# Altium schematic symbol library ModSen.SchLib: 106 symbols (part 1 of 2)
Pins are listed as number, name and electrical type; pins without a type are passive.

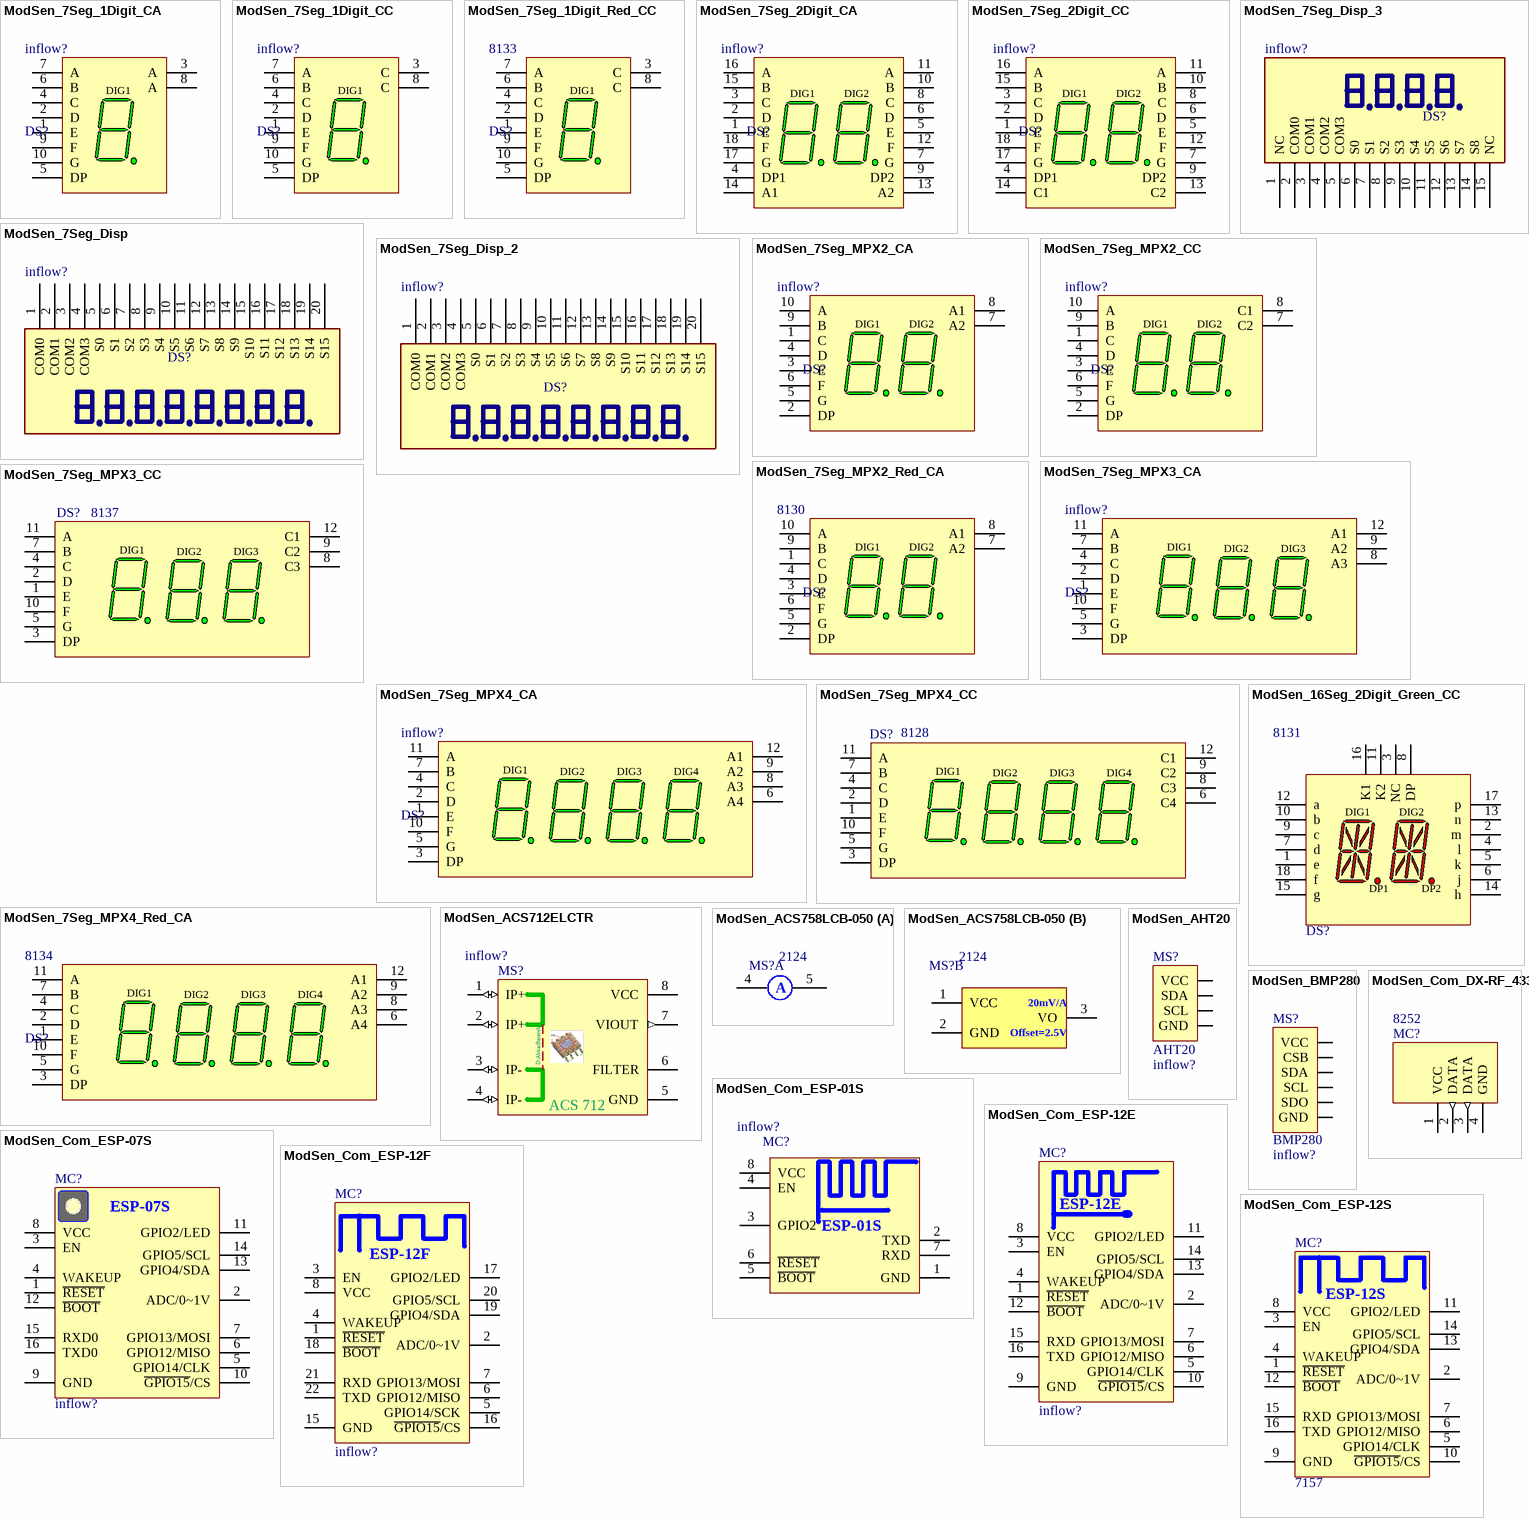
[diagram p0: symbols ModSen_7Seg_1Digit_CA to ModSen_Com_ESP-12S]

## ModSen_7Seg_1Digit_CA
designator DS?, comment Inflow: inflow?  (hidden comment: 1Digit, Color)
7Segment-1Digit-CA; Rating: Rating?; Type: Type?; Validation: NT; Value: 1Digit, Color; Package: Package?
footprint 7Seg-1-12.7x19.1mm (7Seg Display; 10 Leads; Body 12/7x19/1mm)
footprint 7seg-1-24x34mm (7Seg Display; 10 Leads; Body 24x34mm)
footprint 7seg-1-48x70mm (7Seg Display; 10 Leads; Body 48x70mm)
pins: 1 E, 2 D, 3 A, 4 C, 5 DP, 6 B, 7 A, 8 A, 9 F, 10 G
text: DIG1

## ModSen_7Seg_1Digit_CC
designator DS?, comment Inflow: inflow?  (hidden comment: 1Digit, Color)
7Segment-1Digit-CC; Rating: Rating?; Type: Type?; Validation: NT; Value: 1Digit, Color; Package: Package?
footprint 7Seg-1-12.7x19.1mm (7Seg Display; 10 Leads; Body 12/7x19/1mm)
footprint 7seg-1-24x34mm (7Seg Display; 10 Leads; Body 24x34mm)
footprint 7seg-1-48x70mm (7Seg Display; 10 Leads; Body 48x70mm)
pins: 1 E, 2 D, 3 C, 4 C, 5 DP, 6 B, 7 A, 8 C, 9 F, 10 G
text: DIG1

## ModSen_7Seg_1Digit_Red_CC
designator DS?, comment Inflow: 8133  (hidden comment: 1Digit, Red)
7Segment-1Digit-CC; Rating: Rating?; Type: Type?; Validation: NT; Value: 1Digit, Red; Package: Package?
footprint 7Seg-1-12.7x19.1mm (7Seg Display; 10 Leads; Body 12/7x19/1mm)
footprint 7seg-1-24x34mm (7Seg Display; 10 Leads; Body 24x34mm)
footprint 7seg-1-48x70mm (7Seg Display; 10 Leads; Body 48x70mm)
pins: 1 E, 2 D, 3 C, 4 C, 5 DP, 6 B, 7 A, 8 C, 9 F, 10 G
text: DIG1

## ModSen_7Seg_2Digit_CA
designator DS?, comment Inflow: inflow?  (hidden comment: 2Digit, Color)
7Segment-2Digit-CA; Rating: Rating?; Type: Type?; Validation: NT; Value: 2Digit, Color; Package: Package?
footprint 7Seg-2-25x19.1mm (7Seg Display, 18-Leads, Body 25x19/1mm)
pins: 1 E "Digit 1 e Cathode", 2 D "Digit 1 d Cathode", 3 C "Digit 1 c Cathode", 4 DP1 "Digit 1 DP Cathode", 5 E "Digit 2 e Cathode", 6 D "Digit 2 d Cathode", 7 G "Digit 2 g Cathode", 8 C "Digit 2 c Cathode", 9 DP2 "Digit 2 DP Cathode", 10 B "Digit 2 b Cathode", 11 A "Digit 2 a Cathode", 12 F "Digit 2 f Cathode", 13 A2 "Digit 2  Common Anode", 14 A1 "Digit 1 Common Anode", 15 B "Digit 1 b Cathode", 16 A "Digit 1 a Cathode", 17 G "Digit 1 g Cathode", 18 F "Digit 1 f Cathode"
text: DIG1; DIG2

## ModSen_7Seg_2Digit_CC
designator DS?, comment Inflow: inflow?  (hidden comment: 2Digit, Color)
7Segment-2Digit-CC; Rating: Rating?; Type: Type?; Validation: NT; Value: 2Digit, Color; Package: Package?
footprint 7Seg-2-25x19.1mm (7Seg Display, 18-Leads, Body 25x19/1mm)
pins: 1 E "Digit 1 e Cathode", 2 D "Digit 1 d Cathode", 3 C "Digit 1 c Cathode", 4 DP1 "Digit 1 DP Cathode", 5 E "Digit 2 e Cathode", 6 D "Digit 2 d Cathode", 7 G "Digit 2 g Cathode", 8 C "Digit 2 c Cathode", 9 DP2 "Digit 2 DP Cathode", 10 B "Digit 2 b Cathode", 11 A "Digit 2 a Cathode", 12 F "Digit 2 f Cathode", 13 C2 "Digit 2  Common Anode", 14 C1 "Digit 1 Common Anode", 15 B "Digit 1 b Cathode", 16 A "Digit 1 a Cathode", 17 G "Digit 1 g Cathode", 18 F "Digit 1 f Cathode"
text: DIG1; DIG2

## ModSen_7Seg_Disp
designator DS?, comment Inflow: inflow?  (hidden comment: BTL004)
BTL004 7segment multiplex display; Rating: Rating?; Type: Type?; Validation: NT; Value: BTL004; Package: Package?
footprint BTL004
pins: 1 COM0, 2 COM1, 3 COM2, 4 COM3, 5 S0, 6 S1, 7 S2, 8 S3, 9 S4, 10 S5, 11 S6, 12 S7, 13 S8, 14 S9, 15 S10, 16 S11, 17 S12, 18 S13, 19 S14, 20 S15

## ModSen_7Seg_Disp_2
designator DS?, comment Inflow: inflow?  (hidden comment: BTL008)
BTL008 7segment multiplex display; Rating: Rating?; Type: Type?; Validation: NT; Value: BTL008; Package: Package?
footprint BTL008
pins: 1 COM0, 2 COM1, 3 COM2, 4 COM3, 5 S0, 6 S1, 7 S2, 8 S3, 9 S4, 10 S5, 11 S6, 12 S7, 13 S8, 14 S9, 15 S10, 16 S11, 17 S12, 18 S13, 19 S14, 20 S15

## ModSen_7Seg_Disp_3
designator DS?, comment Inflow: inflow?  (hidden comment: BTL010)
BTL010 7segment multiplex display; Rating: Rating?; Type: Type?; Validation: NT; Value: BTL010; Package: Package?
footprint BTL010
pins: 1 NC, 2 COM0, 3 COM1, 4 COM2, 5 COM3, 6 S0, 7 S1, 8 S2, 9 S3, 10 S4, 11 S5, 12 S6, 13 S7, 14 S8, 15 NC

## ModSen_7Seg_MPX2_CA
designator DS?, comment Inflow: inflow?  (hidden comment: 2Digit, Color)
7Segment-MPX2-CA; Rating: Rating?; Type: Type?; Validation: NT; Value: 2Digit, Color; Package: Package?
footprint 7Seg-MPX2-25x19.1mm (7Seg Display, 10-Leads, Body 25x19/1mm)
pins: 1 C "Digits (1&2) Cathode", 2 DP "Digits (1&2) Cathode", 3 E "Digits (1&2) Cathode", 4 D "Digits (1&2) Cathode", 5 G "Digits (1&2) Cathode", 6 F "Digits (1&2) Cathode", 7 A2 "Common Anode", 8 A1 "Common Anode", 9 B "Digits (1&2) Cathode", 10 A "Digits (1&2) Cathode"
text: DIG1; DIG2

## ModSen_7Seg_MPX2_CC
designator DS?, comment Inflow: inflow?  (hidden comment: 2Digit, Color)
7Segment-MPX2-CC; Rating: Rating?; Type: Type?; Validation: NT; Value: 2Digit, Color; Package: Package?
footprint 7Seg-MPX2-25x19.1mm (7Seg Display, 10-Leads, Body 25x19/1mm)
pins: 1 C "Digits (1&2) Cathode", 2 DP "Digits (1&2) Cathode", 3 E "Digits (1&2) Cathode", 4 D "Digits (1&2) Cathode", 5 G "Digits (1&2) Cathode", 6 F "Digits (1&2) Cathode", 7 C2 "Common Anode", 8 C1 "Common Anode", 9 B "Digits (1&2) Cathode", 10 A "Digits (1&2) Cathode"
text: DIG1; DIG2

## ModSen_7Seg_MPX2_Red_CA
designator DS?, comment Inflow: 8130  (hidden comment: 2Digit, Red)
7Segment-MPX2-CA; Rating: Rating?; Type: Type?; Validation: NT; Value: 2Digit, Red; Package: Package?
footprint 7Seg-MPX2-25x19.1mm (7Seg Display, 10-Leads, Body 25x19/1mm)
pins: 1 C "Digits (1&2) Cathode", 2 DP "Digits (1&2) Cathode", 3 E "Digits (1&2) Cathode", 4 D "Digits (1&2) Cathode", 5 G "Digits (1&2) Cathode", 6 F "Digits (1&2) Cathode", 7 A2 "Common Anode", 8 A1 "Common Anode", 9 B "Digits (1&2) Cathode", 10 A "Digits (1&2) Cathode"
text: DIG1; DIG2

## ModSen_7Seg_MPX3_CA
designator DS?, comment Inflow: inflow?  (hidden comment: 3Digit, Color)
7Segment-MPX3-CA; Rating: Rating?; Type: Type?; Validation: NT; Value: 3Digit, Color; Package: Package?
footprint 7Seg-MPX3-37.6x19.1mm (Display, 12-Leads, Body 37/6x19/1mm)
pins: 1 E, 2 D, 3 DP, 4 C, 5 G, 6 NC hidden, 7 B, 8 A3, 9 A2, 10 F, 11 A, 12 A1
text: DIG1; DIG2; DIG3

## ModSen_7Seg_MPX3_CC
designator DS?, comment Inflow: 8137  (hidden comment: 3Digit Green)
7Segment-MPX3-CC; Rating: Rating?; Type: Type?; Validation: NT; Value: 3Digit Green; Package: Package?
footprint 7Seg-MPX3-37.6x19.1mm (Display, 12-Leads, Body 37/6x19/1mm)
pins: 1 E, 2 D, 3 DP, 4 C, 5 G, 6 NC hidden, 7 B, 8 C3, 9 C2, 10 F, 11 A, 12 C1
text: DIG1; DIG2; DIG3

## ModSen_7Seg_MPX4_CA
designator DS?, comment Inflow: inflow?  (hidden comment: 4Digit, Color)
7Segment-MPX4-CA; Rating: Rating?; Type: Type?; Validation: Valid; Value: 4Digit, Color; Package: Package?
footprint 7Seg-MPX4-30.2x14.1mm (Display, 12-Leads, Body 30/2x14/1mm)
footprint 7Seg-MPX4-50.5x19.1mm (Display, 12-Leads, Body 50.5x19/1mm)
pins: 1 E, 2 D, 3 DP, 4 C, 5 G, 6 A4, 7 B, 8 A3, 9 A2, 10 F, 11 A, 12 A1
text: DIG1; DIG2; DIG3; DIG4

## ModSen_7Seg_MPX4_CC
designator DS?, comment Inflow: 8128  (hidden comment: 4Digit, Red)
7Segment-MPX4-CC; Rating: Rating?; Type: Type?; Validation: Valid; Value: 4Digit, Red; Package: Package?
footprint 7Seg-MPX4-30.2x14.1mm (Display, 12-Leads, Body 30/2x14/1mm)
footprint 7Seg-MPX4-50.5x19.1mm (Display, 12-Leads, Body 50.5x19/1mm)
pins: 1 E, 2 D, 3 DP, 4 C, 5 G, 6 C4, 7 B, 8 C3, 9 C2, 10 F, 11 A, 12 C1
text: DIG1; DIG2; DIG3; DIG4

## ModSen_7Seg_MPX4_Red_CA
designator DS?, comment Inflow: 8134  (hidden comment: 4Digit, Red)
7Segment-MPX4-CA; Rating: Rating?; Type: Type?; Validation: NT; Value: 4Digit, Red; Package: Package?
footprint 7Seg-MPX4-30.2x14.1mm (Display, 12-Leads, Body 30/2x14/1mm)
footprint 7Seg-MPX4-50.5x19.1mm (Display, 12-Leads, Body 50.5x19/1mm)
pins: 1 E, 2 D, 3 DP, 4 C, 5 G, 6 A4, 7 B, 8 A3, 9 A2, 10 F, 11 A, 12 A1
text: DIG1; DIG2; DIG3; DIG4

## ModSen_16Seg_2Digit_Green_CC
designator DS?, comment Inflow: 8131  (hidden comment: 2digit, Green)
13.7 mm Gray Surface As AlInGaP Red Alphanumeric Display: 2-Character, CC; Rating: Rating?; Type: Type?; Validation: NT; Value: 2digit, Green; Package: Package?
footprint HDSP-A2 (LED, Alphanumeric Display, 13.8 mm, Dual Character; 18 Leads; Row Space 15.24 mm; Pitch 2.54 mm)
pins: 1 e "Digits (1&2) e Anode", 2 m "Digits (1&2) m Anode", 3 NC "No Connect", 4 l "Digits (1&2) l Anode", 5 k "Digits (1&2) k Anode", 6 j "Digits (1&2) j Anode", 7 d "Digits (1&2) d Anode", 8 DP "Digit 1&2 DP Anode", 9 c "Digits (1&2) c Anode", 10 b "Digits (1&2) b Anode", 11 K2 "Digit 2 Common Cathode", 12 a "Digits (1&2) a Anode", 13 n "Digits (1&2) n Anode", 14 h "Digits (1&2) h Anode", 15 g "Digits (1&2) g Anode", 16 K1 "Digit 1 Common Cathode", 17 p "Digits (1&2) p Anode", 18 f "Digits (1&2) f Anode"
text: DIG1; DIG2; DP1; DP2

## ModSen_ACS712ELCTR
designator MS?, comment Inflow: inflow?  (hidden comment: ACS712-5A)
Fully Integrated, Hall Effect-Based Linear Current Sensor IC  with 2.1 kVRMS Isolation and a Low-Resistance Current Conductor; Rating: Rating?; Validation: NT; Value: ACS712-5A; Package: Package?; Type: Type?
footprint 8S2_N (SOP, 8-Leads, Body 5.3x5.3mm, Pitch 1.27mm, IPC Medium Density)
footprint 8S2_L (SOP, 8-Leads, Body 5.3x5.3mm, Pitch 1.27mm, IPC High Density)
footprint 8S2_M (SOP, 8-Leads, Body 5.3x5.3mm, Pitch 1.27mm, IPC Low Density)
pins: 1 IP+ (io), 2 IP+ (io), 3 IP- (io), 4 IP- (io), 5 GND (power), 6 FILTER, 7 VIOUT (out), 8 VCC (power)
text: D:AbbasBasereh; ACS 712

## ModSen_ACS758LCB-050
designator MS?, comment Inflow: 2124  (hidden comment: 50'A)
Current Sensor; Rating: Rating?; Validation: NT; Value: 50'A; Package: Package?; Type: Type?
footprint ACS752SCA-100
part A pins: 4 Ip+, 5 Ip-
part B pins: 1 VCC (power), 2 GND (power), 3 VO
part A text: A
part B text: 20mV/A; Offset=2.5V

## ModSen_AHT20
designator MS?, comment Inflow: inflow?  (hidden comment: AHT20)
Air Temperature and Humidity Sensor; Rating: Rating?; Validation: Valid; Package: Dip; Type: Air T&H; Value: AHT20
footprint AHT20
pins: 1 SDA, 2 SCL, 3 GND, 4 VCC

## ModSen_BMP280
designator MS?, comment Inflow: inflow?  (hidden comment: BMP280)
Air Pressure Sensor; Rating: Rating?; Validation: Valid; Package: Dip; Type: Air Quality; Value: BMP280
footprint BMP280
pins: 1 VCC, 2 GND, 3 SCL, 4 SDA, 5 CSB "if Connector To Vddio => I2C Mode, If Pull Down => SPI Mode", 6 SDO "I2C Add"

## ModSen_Com_DX-RF_433
designator MC?, comment Inflow: 8252  (hidden comment: RXB22)
ASK DX-RF 433; Rating: Rating?; Validation: Vallid; Value: RXB22; Package: Package?; Type: Type?
footprint RF_DX-RF
pins: 1 VCC (power), 2 DATA (out), 3 DATA (out), 4 GND (power)

## ModSen_Com_ESP-01S
designator MC?, comment Inflow: inflow?  (hidden comment: ESP8266-01S)
ESP8266 WIFI Module Model ESP-01S; Rating: Rating?; Validation: NT; Value: ESP8266-01S; Package: Package?; Type: Type?
footprint ESP8266_01S (ArdESP8266_01S, 8-Leads, Pitch 2.54mm)
pins: 1 GND (power), 2 TXD, 3 GPIO2, 4 EN, 5 ~{BOOT}, 6 ~{RESET}, 7 RXD, 8 VCC (power)
text: ESP-01S

## ModSen_Com_ESP-07S
designator MC?, comment Inflow: inflow?  (hidden comment: ESP8266-07S)
ESP8266 WIFI Module Model ESP-07S; Rating: 07S; Validation: NT; Type: ESP8266; Package: SMD; Value: ESP8266-07S
footprint ESP8266_07S
pins: 1 ~{RESET}, 2 ADC/0~1V, 3 EN, 4 WAKEUP, 5 GPIO14/CLK, 6 GPIO12/MISO, 7 GPIO13/MOSI, 8 VCC (power), 9 GND (power), 10 ~{GPIO15}/CS, 11 GPIO2/LED, 12 ~{BOOT}, 13 GPIO4/SDA, 14 GPIO5/SCL, 15 RXD0, 16 TXD0
text: ESP-07S

## ModSen_Com_ESP-12E
designator MC?, comment Inflow: inflow?  (hidden comment: ESP8266-12E)
ESP8266 WIFI Module Model ESP-12E; Rating: 12E; Validation: NT; Type: ESP8266; Package: SMD; Value: ESP8266-12E
footprint ESP8266_12E
pins: 1 ~{RESET}, 2 ADC/0~1V, 3 EN, 4 WAKEUP, 5 GPIO14/CLK, 6 GPIO12/MISO, 7 GPIO13/MOSI, 8 VCC (power), 9 GND (power), 10 ~{GPIO15}/CS, 11 GPIO2/LED, 12 ~{BOOT}, 13 GPIO4/SDA, 14 GPIO5/SCL, 15 RXD, 16 TXD
text: ESP-12E

## ModSen_Com_ESP-12F
designator MC?, comment Inflow: inflow?  (hidden comment: ESP8266-12F)
ESP8266 WIFI Module Model ESP-12F; Rating: 12F; Validation: NT; Package: SMD; Type: ESP8266; Value: ESP8266-12F
footprint ESP8266_12F
pins: 1 ~{RESET}, 2 ADC/0~1V, 3 EN, 4 WAKEUP, 5 GPIO14/SCK, 6 GPIO12/MISO, 7 GPIO13/MOSI, 8 VCC (power), 15 GND (power), 16 ~{GPIO15}/CS, 17 GPIO2/LED, 18 ~{BOOT}, 19 GPIO4/SDA, 20 GPIO5/SCL, 21 RXD, 22 TXD
text: ESP-12F

## ModSen_Com_ESP-12S
designator MC?, comment Inflow: 7157  (hidden comment: ESP8266-12E)
ESP8266 WIFI Module Model ESP-12S; Validation: Valid; Rating: 12S; Type: ESP8266; Package: SMD; Value: ESP8266-12E
footprint ESP8266_12S
pins: 1 ~{RESET}, 2 ADC/0~1V, 3 EN, 4 WAKEUP, 5 GPIO14/CLK, 6 GPIO12/MISO, 7 GPIO13/MOSI, 8 VCC (power), 9 GND (power), 10 ~{GPIO15}/CS, 11 GPIO2/LED, 12 ~{BOOT}, 13 GPIO4/SDA, 14 GPIO5/SCL, 15 RXD, 16 TXD
text: ESP-12S

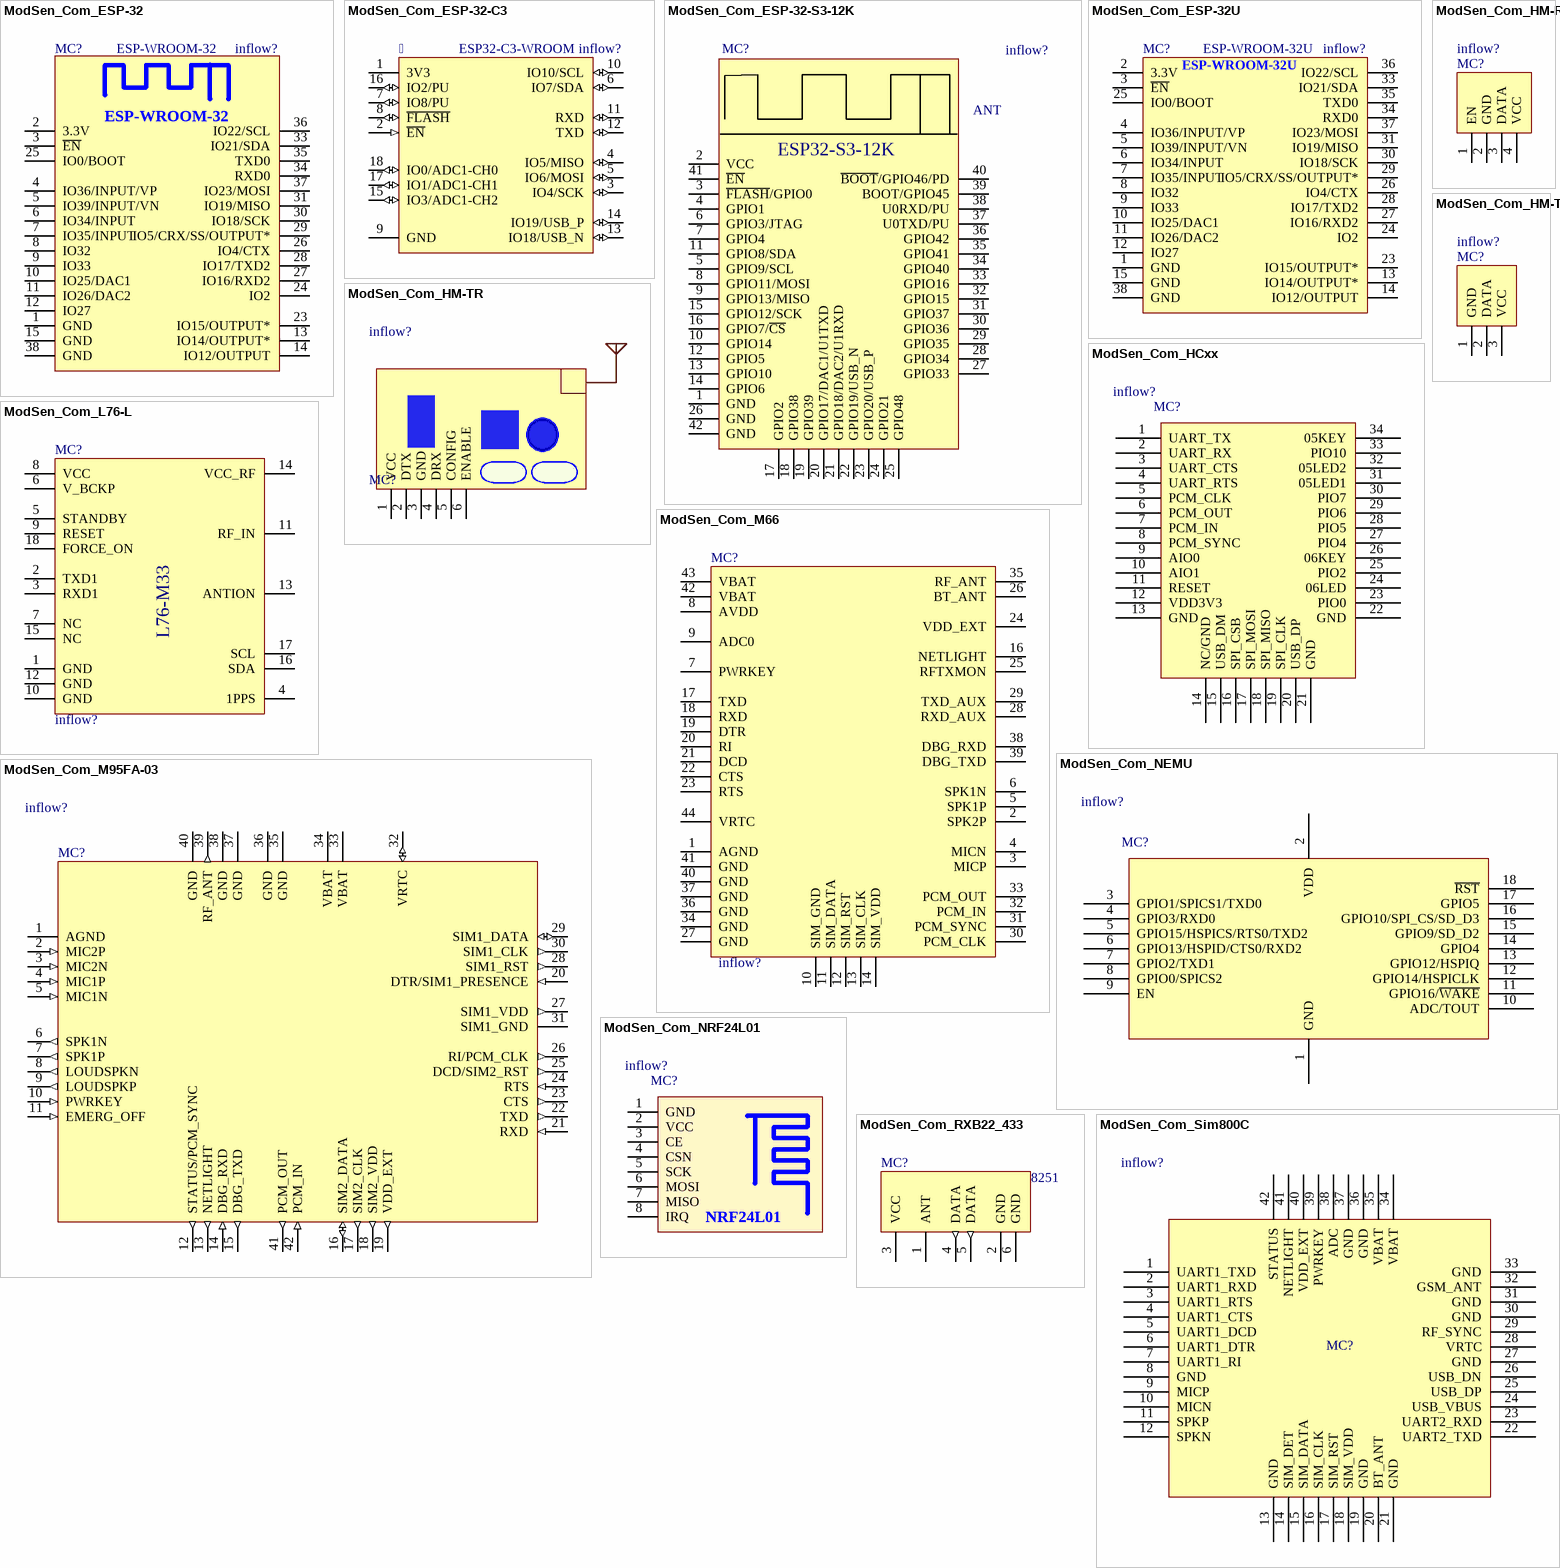
[diagram p1: symbols ModSen_Com_ESP-32 to ModSen_Com_Sim800C]

## ModSen_Com_ESP-32
designator MC?, comment Inflow: inflow?  (hidden comment: ESP-WROOM-32)
WiFi + Bluetooth/BLE Module; Rating: Rating?; Validation: Valid; Package: SMD; Type: WROOM; Value: ESP-WROOM-32
footprint ESP-WROOM-32 (ESP-WROOM-32, 39-Leads, Pitch 1.27mm)
pins: 1 GND (power), 2 3.3V (power), 3 ~{EN}, 4 IO36/INPUT/VP, 5 IO39/INPUT/VN, 6 IO34/INPUT, 7 IO35/INPUT, 8 IO32, 9 IO33, 10 IO25/DAC1, 11 IO26/DAC2, 12 IO27, 13 IO14/OUTPUT*, 14 IO12/OUTPUT, 15 GND (power), 23 IO15/OUTPUT*, 24 IO2, 25 IO0/BOOT, 26 IO4/CTX, 27 IO16/RXD2, 28 IO17/TXD2, 29 IO5/CRX/SS/OUTPUT*, 30 IO18/SCK, 31 IO19/MISO, 33 IO21/SDA, 34 RXD0, 35 TXD0, 36 IO22/SCL, 37 IO23/MOSI, 38 GND (power)

## ModSen_Com_ESP-32-C3
designator , comment Inflow: inflow?  (hidden comment: ESP32-C3-WROOM)
WiFi Modules (802.11) (Engineering Samples) SMD module, ESP32-C3, 4MB SPI flash, PCB antenna, -40 C +105 C; Rating: Rating?; Validation: Valid; Package: SMD; Type: WROOM; Value: ESP32-C3-WROOM
footprint MODULE_ESP32-C3-WROOM-02-H4
pins: 1 3V3 (power), 2 ~{EN} (in), 3 IO4/SCK (io), 4 IO5/MISO (io), 5 IO6/MOSI (io), 6 IO7/SDA (io), 7 IO8/PU (io), 8 ~{FLASH} (io), 9 GND (power), 10 IO10/SCL (io), 11 RXD (io), 12 TXD (io), 13 IO18/USB_N (io), 14 IO19/USB_P (io), 15 IO3/ADC1-CH2 (io), 16 IO2/PU (io), 17 IO1/ADC1-CH1 (io), 18 IO0/ADC1-CH0 (io)

## ModSen_Com_ESP-32-S3-12K
designator MC?, comment Inflow: inflow?  (hidden comment: ESP-WROOM-32)
WiFi + Bluetooth/BLE Module; Rating: Rating?; Validation: Valid; Value: ESP-WROOM-32; Package: Package?; Type: Type?
footprint ESP32-S3-12K
pins: 1 GND "Gound", 2 VCC "3.3V", 3 ~{FLASH}/GPIO0 "GPIO0", 4 GPIO1 "ADC1_CH0/Touch1", 5 GPIO9/SCL "ADC1_CH8/Touch9/SUBSPIHD/FSPIHD", 6 GPIO3/JTAG "ADC1_CH2/Touch3", 7 GPIO4 "ADC1_CH3/Touch4", 8 GPIO11/MOSI "ADC2_CH0/Touch11/FSPIIO5/SUBSPID/FSPID", 9 GPIO13/MISO "ADC2_CH2/Touch13/FSPIIO7/SUBSPIQ/FSPIQ", 10 GPIO14 "ADC2_CH3/Touch14/FSPIDOS/SUBSPIWP/FSPIDWP", 11 GPIO8/SDA "ADC1_CH7/Touch8/SUBSPICS1", 12 GPIO5 "ADC1_CH4/Touch5", 13 GPIO10 "ADC1_CH9/Touch10/FSPIIO4/SUBSPICS0/FSPICS0", 14 GPIO6 "ADC1_CH5/Touch6", 15 GPIO12/SCK "ADC2_CH1/Touch12/FSPIIO6/SUBSPICLK/FSPICLK", 16 GPIO7/~{CS} "ADC1_CH6/Touch7", 17 GPIO2 "ADC1_CH1/Touch2", 18 GPIO38 "FSPIWP/SUBSPIWP", 19 GPIO39 "MTCK/CLK_OUT3/SUBSPICS1", 20 GPIO17/DAC1/U1TXD "ADC2_CH6/U1TXD", 21 GPIO18/DAC2/U1RXD "ADC2_CH7/U1RXD/CLK_OUT3", 22 GPIO19/USB_N "ADC2_CH8/U1RTS/CLK_OUT2/USB_D-", 23 GPIO20/USB_P "ADC2_CH9/U1CTS/CLK_OUT1/USB_D+", 24 GPIO21 "-", 25 GPIO48 "SPICLK_N_DIFF/SUBSPI_CLK_N_DIFF", 26 GND "Gound", 27 GPIO33 "FSPIHD/SUBSPIHD/SPIIO4", 28 GPIO34 "FSPICS0/SUBSPICS0/SPIIO5", 29 GPIO35 "FSPID/SUBSPID/SPIIO6", 30 GPIO36 "FSPICLK/SUBSPICLK/SPIIO7", 31 GPIO37 "FSPIQ/SUBSPIQ/SPIDQS", 32 GPIO15 "ADC2_CH4/U0RTS/XTAL_32K_P", 33 GPIO16 "ADC2_CH5/U0CTS/XTAL_32K_N", 34 GPIO40 "MTDO/CLK_OUT2", 35 GPIO41 "MTDI/CLK_OUT1", 36 GPIO42 "MTMS", 37 U0TXD/PU "GPIO43/CLK_OUT1-Require Ext PU10K", 38 U0RXD/PU "GPIO44/CLK_OUT2-Require Ext PU10K", 39 BOOT/GPIO45 "-", 40 ~{BOOT}/GPIO46/PD "-", 41 ~{EN} "Reset", 42 GND "Gound"
text: ANT; ESP32-S3-12K

## ModSen_Com_ESP-32U
designator MC?, comment Inflow: inflow?  (hidden comment: ESP-WROOM-32U)
WiFi + Bluetooth/BLE Module; Rating: Rating?; Validation: Valid; Package: SMD; Type: WROOM; Value: ESP-WROOM-32U
footprint ESP-WROOM-32U (ESP-WROOM-32, 39-Leads, Pitch 1.27mm)
pins: 1 GND (power), 2 3.3V (power), 3 ~{EN}, 4 IO36/INPUT/VP, 5 IO39/INPUT/VN, 6 IO34/INPUT, 7 IO35/INPUT, 8 IO32, 9 IO33, 10 IO25/DAC1, 11 IO26/DAC2, 12 IO27, 13 IO14/OUTPUT*, 14 IO12/OUTPUT, 15 GND (power), 23 IO15/OUTPUT*, 24 IO2, 25 IO0/BOOT, 26 IO4/CTX, 27 IO16/RXD2, 28 IO17/TXD2, 29 IO5/CRX/SS/OUTPUT*, 30 IO18/SCK, 31 IO19/MISO, 33 IO21/SDA, 34 RXD0, 35 TXD0, 36 IO22/SCL, 37 IO23/MOSI, 38 GND (power)

## ModSen_Com_HCxx
designator MC?, comment Inflow: inflow?  (hidden comment: HCxx)
HCxx BLUETOOTH; Rating: Rating?; Validation: NT; Value: HCxx; Package: Package?; Type: Type?
footprint HCXX-BLUETOOTH
pins: 1 UART_TX, 2 UART_RX, 3 UART_CTS, 4 UART_RTS, 5 PCM_CLK, 6 PCM_OUT, 7 PCM_IN, 8 PCM_SYNC, 9 AIO0, 10 AIO1, 11 RESET, 12 VDD3V3, 13 GND, 14 NC/GND, 15 USB_DM, 16 SPI_CSB, 17 SPI_MOSI, 18 SPI_MISO, 19 SPI_CLK, 20 USB_DP, 21 GND, 22 GND, 23 PIO0, 24 06LED, 25 PIO2, 26 06KEY, 27 PIO4, 28 PIO5, 29 PIO6, 30 PIO7, 31 05LED1, 32 05LED2, 33 PIO10, 34 05KEY

## ModSen_Com_HM-R
designator MC?, comment Inflow: inflow?  (hidden comment: HM-R)
Modules RF 433MHz; Rating: Rating?; Validation: NT; Value: HM-R; Package: Package?; Type: Type?
footprint HM-R (Connector; Header; 4 Position)
pins: 1 EN, 2 GND, 3 DATA, 4 VCC

## ModSen_Com_HM-T
designator MC?, comment Inflow: inflow?  (hidden comment: HM-T)
Modules RF 433MHz; Rating: Rating?; Validation: NT; Value: HM-T; Package: Package?; Type: Type?
footprint HM-T (Connector; Header; 3 Position)
pins: 1 GND, 2 DATA, 3 VCC

## ModSen_Com_HM-TR
designator MC?, comment Inflow: inflow?  (hidden comment: HM-TR)
Modules RF 433MHz; Rating: Rating?; Validation: NT; Value: HM-TR; Package: Package?; Type: Type?
footprint HM-TR
pins: 1 VCC, 2 DTX, 3 GND, 4 DRX, 5 CONFIG, 6 ENABLE

## ModSen_Com_L76-L
designator MC?, comment Inflow: inflow?  (hidden comment: L76-L)
Quectel GPS L76Module; Rating: Rating?; Validation: Valid; Type: GSM-GPRS; Value: L76-L; Package: Dip
footprint L76-L
pins: 1 GND, 2 TXD1, 3 RXD1, 4 1PPS, 5 STANDBY, 6 V_BCKP, 7 NC, 8 VCC, 9 RESET, 10 GND, 11 RF_IN, 12 GND, 13 ANTION, 14 VCC_RF, 15 NC, 16 SDA, 17 SCL, 18 FORCE_ON
text: L76-M33

## ModSen_Com_M66
designator MC?, comment Inflow: inflow?  (hidden comment: M66)
Quectel GSM/GPRS Module; Rating: Rating?; Validation: Valid; Package: Dip; Value: M66; Type: GSM-GPRS
footprint m66
pins: 1 AGND, 2 SPK2P, 3 MICP, 4 MICN, 5 SPK1P, 6 SPK1N, 7 PWRKEY, 8 AVDD, 9 ADC0, 10 SIM_GND, 11 SIM_DATA, 12 SIM_RST, 13 SIM_CLK, 14 SIM_VDD, 16 NETLIGHT, 17 TXD, 18 RXD, 19 DTR, 20 RI, 21 DCD, 22 CTS, 23 RTS, 24 VDD_EXT, 25 RFTXMON, 26 BT_ANT, 27 GND, 28 RXD_AUX, 29 TXD_AUX, 30 PCM_CLK, 31 PCM_SYNC, 32 PCM_IN, 33 PCM_OUT, 34 GND, 35 RF_ANT, 36 GND, 37 GND, 38 DBG_RXD, 39 DBG_TXD, 40 GND, 41 GND, 42 VBAT, 43 VBAT, 44 VRTC

## ModSen_Com_M95FA-03
designator MC?, comment Inflow: inflow?  (hidden comment: M95FA-03-STD)
Quad-band  GSM/GPRS Module; Rating: Rating?; Validation: NT; Value: M95FA-03-STD; Package: Package?; Type: Type?
footprint M95 (GSM/GPRS Module Series)
pins: 1 AGND (power), 2 MIC2P (in), 3 MIC2N (in), 4 MIC1P (in), 5 MIC1N (in), 6 SPK1N (out), 7 SPK1P (out), 8 LOUDSPKN (out), 9 LOUDSPKP (out), 10 PWRKEY (in), 11 EMERG_OFF (in), 12 STATUS/PCM_SYNC (out), 13 NETLIGHT (out), 14 DBG_RXD (in), 15 DBG_TXD (out), 16 SIM2_DATA (io), 17 SIM2_CLK (out), 18 SIM2_VDD (out), 19 VDD_EXT (out), 20 DTR/SIM1_PRESENCE (in), 21 RXD (in), 22 TXD (out), 23 CTS (out), 24 RTS (in), 25 DCD/SIM2_RST (out), 26 RI/PCM_CLK (out), 27 SIM1_VDD (out), 28 SIM1_RST (out), 29 SIM1_DATA (io), 30 SIM1_CLK (out), 31 SIM1_GND (power), 32 VRTC (io), 33 VBAT (power), 34 VBAT (power), 35 GND (power), 36 GND (power), 37 GND (power), 38 GND (power), 39 RF_ANT (out), 40 GND (power), 41 PCM_OUT (out), 42 PCM_IN (in)

## ModSen_Com_NEMU
designator MC?, comment Inflow: inflow?  (hidden comment: WF1006/0911)
NEMU WF1006/0911 Wi-Fi Module, THT Package.; Rating: Rating?; Validation: NT; Value: WF1006/0911; Package: Package?; Type: Type?
footprint NEMU_WF1006 (NEMU Wi-Fi Module by Vowstar)
footprint NEMU_WF0911 (NEMU Wi-Fi Module by Vowstar)
pins: 1 GND "Power ground", 2 VDD "Power supply", 3 GPIO1/SPICS1/TXD0 "GPIO1 or UART TXD", 4 GPIO3/RXD0 "GPIO3 or UART RXD", 5 GPIO15/HSPICS/RTS0/TXD2 "GPIO15 or SPICS", 6 GPIO13/HSPID/CTS0/RXD2 "GPIO13 or SPID", 7 GPIO2/TXD1 "GPIO2 or TX", 8 GPIO0/SPICS2 "GPIO0 or SPICS2", 9 EN "Chip enable", 10 ADC/TOUT "ADC Input Or TOUT Output", 11 GPIO16/~{WAKE} "GPIO16 or Deep-Sleep Wakeup", 12 GPIO14/HSPICLK "GPIO14 or SPI CLK", 13 GPIO12/HSPIQ "GPIO12 or SPIQ", 14 GPIO4 "GPIO5", 15 GPIO9/SD_D2 "GPIO13 or SPID", 16 GPIO10/SPI_CS/SD_D3 "GPIO15 or SPICS", 17 GPIO5 "GPIO4", 18 ~{RST} "Reset"

## ModSen_Com_NRF24L01
designator MC?, comment Inflow: inflow?  (hidden comment: NRF24L01+)
Wireless Transceiver Module; Rating: Rating?; Validation: NT; Value: NRF24L01+; Package: Package?; Type: Type?
footprint NRF24L01+ Module (NRF24L01+, 8-Leads, Pitch 2.54mm, 29 x 15.4 mm)
footprint NRF24L01+PA Module (NRF24L01+PA, 8-Leads, Pitch 2.54mm, 40.6 x 15.4 mm)
pins: 1 GND, 2 VCC, 3 CE, 4 CSN, 5 SCK, 6 MOSI, 7 MISO, 8 IRQ
text: NRF24L01

## ModSen_Com_RXB22_433
designator MC?, comment Inflow: 8251  (hidden comment: RXB22)
JMR RXB22 433MHz ASK superheterodyne wireless receiving module; Rating: 433M; Validation: Valid; Value: RXB22; Package: Dip; Type: Learning
footprint RF_ETRXB (Module RF, Receiver, ET-RXB-12, ET-RXB-22)
pins: 1 ANT, 2 GND (power), 3 VCC (power), 4 DATA (out), 5 DATA (out), 6 GND (power)

## ModSen_Com_Sim800C
designator MC?, comment Inflow: inflow?  (hidden comment: Sim800C)
SimCom GSM/GPRS Module; Rating: Rating?; Validation: NT; Value: Sim800C; Package: Package?; Type: Type?
footprint SIM800C
pins: 1 UART1_TXD, 2 UART1_RXD, 3 UART1_RTS, 4 UART1_CTS, 5 UART1_DCD, 6 UART1_DTR, 7 UART1_RI, 8 GND, 9 MICP, 10 MICN, 11 SPKP, 12 SPKN, 13 GND, 14 SIM_DET, 15 SIM_DATA, 16 SIM_CLK, 17 SIM_RST, 18 SIM_VDD, 19 GND, 20 BT_ANT, 21 GND, 22 UART2_TXD, 23 UART2_RXD, 24 USB_VBUS, 25 USB_DP, 26 USB_DN, 27 GND, 28 VRTC, 29 RF_SYNC, 30 GND, 31 GND, 32 GSM_ANT, 33 GND, 34 VBAT, 35 VBAT, 36 GND, 37 GND, 38 ADC, 39 PWRKEY, 40 VDD_EXT, 41 NETLIGHT, 42 STATUS

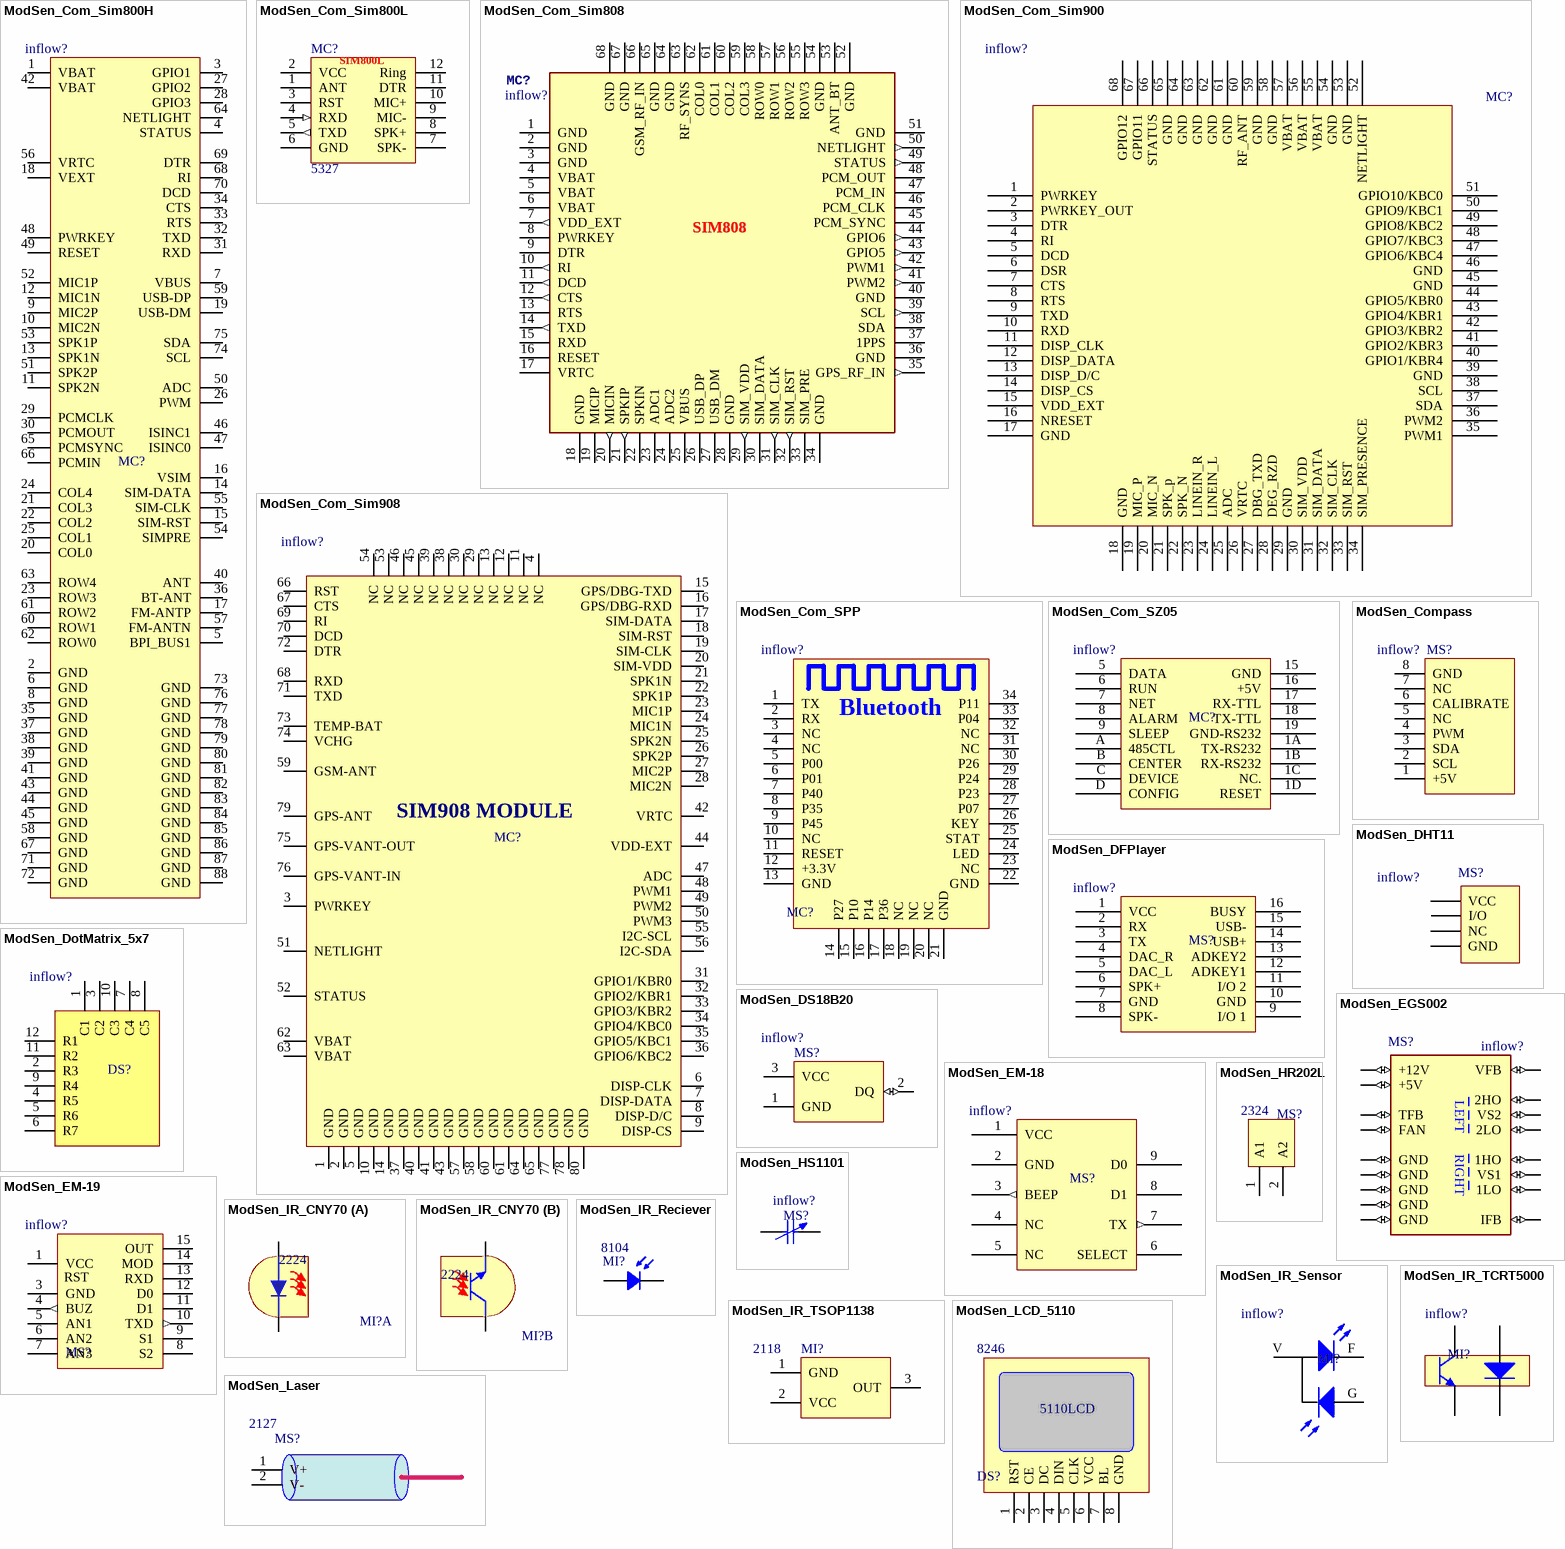
[diagram p2: symbols ModSen_Com_Sim800H to ModSen_LCD_5110]

## ModSen_Com_Sim800H
designator MC?, comment Inflow: inflow?  (hidden comment: Sim800H)
SimCom GSM/GPRS Module; Rating: Rating?; Validation: NT; Value: Sim800H; Package: Package?; Type: Type?
footprint SIM800H
pins: 1 VBAT, 2 GND, 3 GPIO1, 4 STATUS, 5 BPI_BUS1, 6 GND, 7 VBUS, 8 GND, 9 MIC2P, 10 MIC2N, 11 SPK2N, 12 MIC1N, 13 SPK1N, 14 SIM-DATA, 15 SIM-RST, 16 VSIM, 17 FM-ANTP, 18 VEXT, 19 USB-DM, 20 COL0, 21 COL3, 22 COL2, 23 ROW3, 24 COL4, 25 COL1, 26 PWM, 27 GPIO2, 28 GPIO3, 29 PCMCLK, 30 PCMOUT, 31 RXD, 32 TXD, 33 RTS, 34 CTS, 35 GND, 36 BT-ANT, 37 GND, 38 GND, 39 GND, 40 ANT, 41 GND, 42 VBAT, 43 GND, 44 GND, 45 GND, 46 ISINC1, 47 ISINC0, 48 PWRKEY, 49 RESET, 50 ADC, 51 SPK2P, 52 MIC1P, 53 SPK1P, 54 SIMPRE, 55 SIM-CLK, 56 VRTC, 57 FM-ANTN, 58 GND, 59 USB-DP, 60 ROW1, 61 ROW2, 62 ROW0, 63 ROW4, 64 NETLIGHT, 65 PCMSYNC, 66 PCMIN, 67 GND, 68 RI, 69 DTR, 70 DCD, 71 GND, 72 GND, 73 GND, 74 SCL, 75 SDA, 76 GND, 77 GND, 78 GND, 79 GND, 80 GND, 81 GND, 82 GND, 83 GND, 84 GND, 85 GND, 86 GND, 87 GND, 88 GND

## ModSen_Com_Sim800L
designator MC?, comment Inflow: 5327  (hidden comment: Sim800L)
SimCom GSM/GPRS Module; Rating: Rating?; Validation: NT; Value: Sim800L; Package: Dip; Type: GSM-GPRS
footprint Sim800L_Module (GSM/GPRS Module 25x23/6mm)
pins: 1 ANT, 2 VCC (power), 3 RST, 4 RXD (in), 5 TXD (out), 6 GND (power), 7 SPK-, 8 SPK+, 9 MIC-, 10 MIC+, 11 DTR, 12 Ring
text: SIM800L

## ModSen_Com_Sim808
designator MC?, comment Inflow: inflow?  (hidden comment: Sim808)
Simcom Sim808 Module; Rating: Rating?; Validation: Valid; Type: GSM-GPRS-GPS-BT; Package: SMD; Value: Sim808
footprint Sim808
pins: 1 GND (power), 2 GND (power), 3 GND (power), 4 VBAT (power), 5 VBAT (power), 6 VBAT (power), 7 VDD_EXT (out), 8 PWRKEY, 9 DTR (power), 10 RI (out), 11 DCD (out), 12 CTS (out), 13 RTS, 14 TXD (out), 15 RXD, 16 RESET, 17 VRTC, 18 GND (power), 19 MICIP, 20 MICIN (out), 21 SPKIP (out), 22 SPKIN, 23 ADC1, 24 ADC2, 25 VBUS (power), 26 USB_DP, 27 USB_DM, 28 GND (power), 29 SIM_VDD (out), 30 SIM_DATA, 31 SIM_CLK (out), 32 SIM_RST (out), 33 SIM_PRE, 34 GND (power), 35 GPS_RF_IN (out), 36 GND (power), 37 1PPS, 38 SDA, 39 SCL (out), 40 GND (power), 41 PWM2 (out), 42 PWM1 (out), 43 GPIO5 (out), 44 GPIO6 (out), 45 PCM_SYNC, 46 PCM_CLK, 47 PCM_IN, 48 PCM_OUT, 49 STATUS (out), 50 NETLIGHT (out), 51 GND (power), 52 GND (power), 53 ANT_BT (power), 54 GND (power), 55 ROW3 (power), 56 ROW2 (power), 57 ROW1 (power), 58 ROW0 (power), 59 COL3 (power), 60 COL2 (power), 61 COL1 (power), 62 COL0 (power), 63 RF_SYNS (power), 64 GND (power), 65 GND (power), 66 GSM_RF_IN (power), 67 GND (power), 68 GND (power)

## ModSen_Com_Sim900
designator MC?, comment Inflow: inflow?  (hidden comment: Sim900)
SimCom GSM/GPRS Module; Rating: Rating?; Validation: NT; Value: Sim900; Package: Package?; Type: Type?
footprint SIM900
pins: 1 PWRKEY, 2 PWRKEY_OUT, 3 DTR, 4 RI, 5 DCD, 6 DSR, 7 CTS, 8 RTS, 9 TXD, 10 RXD, 11 DISP_CLK, 12 DISP_DATA, 13 DISP_D/C, 14 DISP_CS, 15 VDD_EXT, 16 NRESET, 17 GND, 18 GND, 19 MIC_P, 20 MIC_N, 21 SPK_p, 22 SPK_N, 23 LINEIN_R, 24 LINEIN_L, 25 ADC, 26 VRTC, 27 DBG_TXD, 28 DEG_RZD, 29 GND, 30 SIM_VDD, 31 SIM_DATA, 32 SIM_CLK, 33 SIM_RST, 34 SIM_PRESENCE, 35 PWM1, 36 PWM2, 37 SDA, 38 SCL, 39 GND, 40 GPIO1/KBR4, 41 GPIO2/KBR3, 42 GPIO3/KBR2, 43 GPIO4/KBR1, 44 GPIO5/KBR0, 45 GND, 46 GND, 47 GPIO6/KBC4, 48 GPIO7/KBC3, 49 GPIO8/KBC2, 50 GPIO9/KBC1, 51 GPIO10/KBC0, 52 NETLIGHT, 53 GND, 54 GND, 55 VBAT, 56 VBAT, 57 VBAT, 58 GND, 59 GND, 60 RF_ANT, 61 GND, 62 GND, 63 GND, 64 GND, 65 GND, 66 STATUS, 67 GPIO11, 68 GPIO12

## ModSen_Com_Sim908
designator MC?, comment Inflow: inflow?  (hidden comment: Sim908)
SimCom GSM/GPRS Module; Rating: Rating?; Validation: NT; Value: Sim908; Package: Package?; Type: Type?
footprint SIM908
footprint SIM908 2
pins: 1 GND, 2 GND, 3 PWRKEY, 4 NC, 5 GND, 6 DISP-CLK, 7 DISP-DATA, 8 DISP-D/C, 9 DISP-CS, 10 GND, 11 NC, 12 NC, 13 NC, 14 GND, 15 GPS/DBG-TXD, 16 GPS/DBG-RXD, 17 SIM-DATA, 18 SIM-RST, 19 SIM-CLK, 20 SIM-VDD, 21 SPK1N, 22 SPK1P, 23 MIC1P, 24 MIC1N, 25 SPK2N, 26 SPK2P, 27 MIC2P, 28 MIC2N, 29 NC, 30 NC, 31 GPIO1/KBR0, 32 GPIO2/KBR1, 33 GPIO3/KBR2, 34 GPIO4/KBC0, 35 GPIO5/KBC1, 36 GPIO6/KBC2, 37 GND, 38 NC, 39 NC, 40 GND, 41 GND, 42 VRTC, 43 GND, 44 VDD-EXT, 45 NC, 46 NC, 47 ADC, 48 PWM1, 49 PWM2, 50 PWM3, 51 NETLIGHT, 52 STATUS, 53 NC, 54 NC, 55 I2C-SCL, 56 I2C-SDA, 57 GND, 58 GND, 59 GSM-ANT, 60 GND, 61 GND, 62 VBAT, 63 VBAT, 64 GND, 65 GND, 66 RST, 67 CTS, 68 RXD, 69 RI, 70 DCD, 71 TXD, 72 DTR, 73 TEMP-BAT, 74 VCHG, 75 GPS-VANT-OUT, 76 GPS-VANT-IN, 77 GND, 78 GND, 79 GPS-ANT, 80 GND
text: SIM908 MODULE

## ModSen_Com_SPP
designator MC?, comment Inflow: inflow?  (hidden comment: SOO-C)
Bluetooth Modules; Rating: Rating?; Validation: NT; Value: SOO-C; Package: Package?; Type: Type?
footprint SPP-C Module (Bluetooth Modules 26/7x13mm)
pins: 1 TX, 2 RX, 3 NC, 4 NC, 5 P00, 6 P01 (power), 7 P40, 8 P35, 9 P45, 10 NC, 11 RESET, 12 +3.3V (power), 13 GND (power), 14 P27, 15 P10, 16 P14, 17 P36, 18 NC, 19 NC, 20 NC, 21 GND (power), 22 GND (power), 23 NC, 24 LED, 25 STAT, 26 KEY, 27 P07, 28 P23, 29 P24, 30 P26, 31 NC, 32 NC, 33 P04, 34 P11
text: Bluetooth

## ModSen_Com_SZ05
designator MC?, comment Inflow: inflow?  (hidden comment: SZ05)
SZ05-ZIGBEE; Rating: Rating?; Validation: NT; Value: SZ05; Package: Package?; Type: Type?
footprint SZ05-ZIGBEE
pins: 1A TX-RS232, 1B RX-RS232, 1C NC., 1D RESET, 5 DATA, 6 RUN, 7 NET, 8 ALARM, 9 SLEEP, 15 GND, 16 +5V, 17 RX-TTL, 18 TX-TTL, 19 GND-RS232, A 485CTL, B CENTER, C DEVICE, D CONFIG

## ModSen_Compass
designator MS?, comment Inflow: inflow?  (hidden comment: Compass)
Compass module; Rating: Rating?; Validation: NT; Value: Compass; Package: Package?; Type: Type?
footprint COMPAS
pins: 1 +5V, 2 SCL, 3 SDA, 4 PWM, 5 NC, 6 CALIBRATE, 7 NC, 8 GND

## ModSen_DFPlayer
designator MS?, comment Inflow: inflow?  (hidden comment: DFPlayer)
Mini MP3 and WMV Player Module; Rating: Rating?; Validation: NT; Value: DFPlayer; Package: Package?; Type: Type?
footprint DFplayerMini (Rfid Module Reader)
pins: 1 VCC (power), 2 RX, 3 TX, 4 DAC_R, 5 DAC_L, 6 SPK+, 7 GND (power), 8 SPK-, 9 I/O 1, 10 GND (power), 11 I/O 2, 12 ADKEY1, 13 ADKEY2, 14 USB+, 15 USB-, 16 BUSY

## ModSen_DHT11
designator MS?, comment Inflow: inflow?  (hidden comment: DHT11)
Temperature & Humidity Sensor; Rating: Rating?; Validation: NT; Value: DHT11; Package: Package?; Type: Type?
footprint DHT11
pins: 1 VCC, 2 I/O, 3 NC, 4 GND

## ModSen_DotMatrix_5x7
designator DS?, comment Inflow: inflow?  (hidden comment: 5x7, Color)
5x7 dot matrix 0.7 inch; Rating: Rating?; Type: Type?; Validation: NT; Value: 5x7, Color; Package: Package?
footprint 5x7 0.7 inch dot matrix
pins: 1 C1, 2 R3, 3 C2, 4 R5, 5 R6, 6 R7, 7 C4, 8 C5, 9 R4, 10 C3, 11 R2, 12 R1

## ModSen_DS18B20
designator MS?, comment Inflow: inflow?  (hidden comment: DS1820)
1-Wire Digital Thermometer; Rating: Rating?; Validation: NT; Value: DS1820; Package: Package?; Type: Type?
footprint TO-92 Bent (DESIGNER :ABBAS BASEREH)
footprint TO-92 CF (DESIGNER :ABBAS BASEREH)
footprint TO-92 STR (DESIGNER :ABBAS BASEREH)
pins: 1 GND (power), 2 DQ (io), 3 VCC (power)

## ModSen_EGS002
designator MS?, comment Inflow: inflow?  (hidden comment: EGS002)
EGS002 is a driver board specific for single phase sinusoid inverter. It uses ASIC EG8010 as control chip and IR2110S as driver chip.; Rating: Rating?; Validation: NT; Value: EGS002; Package: Package?; Type: Type?
footprint EGS002
pins: P$1 IFB (io), P$2 GND (io), P$3 1LO (io), P$4 GND (io), P$5 VS1 (io), P$6 1HO (io), P$7 GND (io), P$8 2LO (io), P$9 VS2 (io), P$10 2HO (io), P$11 GND (io), P$12 +12V (io), P$13 GND (io), P$14 +5V (io), P$15 VFB (io), P$16 TFB (io), P$17 FAN (io)
text: LEFT; RIGHT

## ModSen_EM-18
designator MS?, comment Inflow: inflow?  (hidden comment: EM-18)
RFid Module 125Khz; Rating: Rating?; Validation: NT; Value: EM-18; Package: Package?; Type: Type?
footprint EM-18 (RFID Reader Module 32/6x32/6mm)
pins: 1 VCC (power), 2 GND (power), 3 BEEP (out), 4 NC, 5 NC, 6 SELECT, 7 TX (out), 8 D1, 9 D0

## ModSen_EM-19
designator MS?, comment Inflow: inflow?  (hidden comment: EM-19)
RFID Reader Module; Rating: Rating?; Validation: NT; Value: EM-19; Package: Package?; Type: Type?
footprint EM-19 (RFID Reader Module 32/6x32/6mm)
pins: 1 VCC (power), 3 GND (power), 4 BUZ (out), 5 AN1, 6 AN2, 7 AN3, 8 S2, 9 S1, 10 TXD (out), 11 D1, 12 D0, 13 RXD, 14 MOD, 15 OUT
text: RST

## ModSen_HR202L
designator MS?, comment Inflow: 2324  (hidden comment: HR202L)
Resistive humidity sensor, humidity(20-95%RH) ,  temperature(0-60Celsius) , 31kΩ(at 25Celsius, 1kHz ,1V AC, 60%RH); Rating: Rating?; Validation: NT; Value: HR202L; Package: Package?; Type: Type?
footprint HR_202
pins: 1 A1, 2 A2

## ModSen_HS1101
designator MS?, comment Inflow: inflow?  (hidden comment: HS1101)
RELATIVE HUMIDITY SENSOR; Rating: Rating?; Validation: NT; Value: HS1101; Package: Package?; Type: Type?
footprint HS1101 (HUMIDITY SENSOR)
pins: 1, 2

## ModSen_IR_CNY70
designator MI?, comment Inflow: 2224  (hidden comment: CNY70)
Reflective Optical Sensor with Transistor Output; Rating: Rating?; Validation: NT; Value: CNY70; Package: Package?; Type: Type?
footprint CNY70-HEADERLY (Dimensions (L x W x H in mm): 7 x 7 x 6  • Peak operating distance: < 0.5 mm DESIGNER ABBAS BASEREH)
footprint CNY70-LEAD (Dimensions (L x W x H in mm): 7 x 7 x 6  • Peak operating distance: < 0.5 mm DESIGNER ABBAS BASEREH)
footprint CNY70-LEAD FREE (Dimensions (L x W x H in mm): 7 x 7 x 6  • Peak operating distance: < 0.5 mm DESIGNER ABBAS BASEREH)
footprint CNY70-LEAD-2 (Dimensions (L x W x H in mm): 7 x 7 x 6  • Peak operating distance: < 0.5 mm DESIGNER ABBAS BASEREH)
part A pins: 1 A, 2 K
part B pins: 3 C, 4 E

## ModSen_IR_Reciever
designator MI?, comment Inflow: 8104  (hidden comment: 5'mm)
Infra Red Reciever Photo Diode; Rating: Rating?; Validation: NT; Value: 5'mm; Package: Package?; Type: Type?
footprint LED-5mm-IR Reciver
pins: 1, 2

## ModSen_IR_Sensor
designator MI?, comment Inflow: inflow?  (hidden comment: 3'mm)
IR Sensor; Rating: Rating?; Validation: Valid; Value: 3'mm; Package: Package?; Type: Type?
footprint SENSOR
pins: F, G, V

## ModSen_IR_TCRT5000
designator MI?, comment Inflow: inflow?  (hidden comment: TCRT5000)
IR LED T&R; Rating: Rating?; Validation: NT; Value: TCRT5000; Package: Package?; Type: Type?
footprint TCRT5000 (IR Sensor 2LEDs)
pins: A, C, E, K

## ModSen_IR_TSOP1138
designator MI?, comment Inflow: 2118  (hidden comment: TSOP1138)
Reciver Remot Control (IR) 30-56KHz; Rating: Rating?; Validation: NT; Value: TSOP1138; Package: Package?; Type: Type?
footprint IR10
footprint TSOP1238 (IR Sensor (TV Sensor))
pins: 1 GND, 2 VCC, 3 OUT

## ModSen_Laser
designator MS?, comment Inflow: 2127  (hidden comment: 2m'W)
laser; Rating: Rating?; Validation: NT; Value: 2m'W; Package: Package?; Type: Type?
footprint Laser
pins: 1 V+, 2 V-

## ModSen_LCD_5110
designator DS?, comment Inflow: 8246  (hidden comment: Nokia 5110)
Nokia5110 LCD HXE; Rating: Rating?; Type: Type?; Validation: NT; Value: Nokia 5110; Package: Package?
footprint 5110LCD_HXE (LCD Nokia5110 Module 45/6x46/8mm)
pins: 1 RST, 2 CE, 3 DC, 4 DIN, 5 CLK, 6 VCC (power), 7 BL, 8 GND (power)
text: 5110LCD

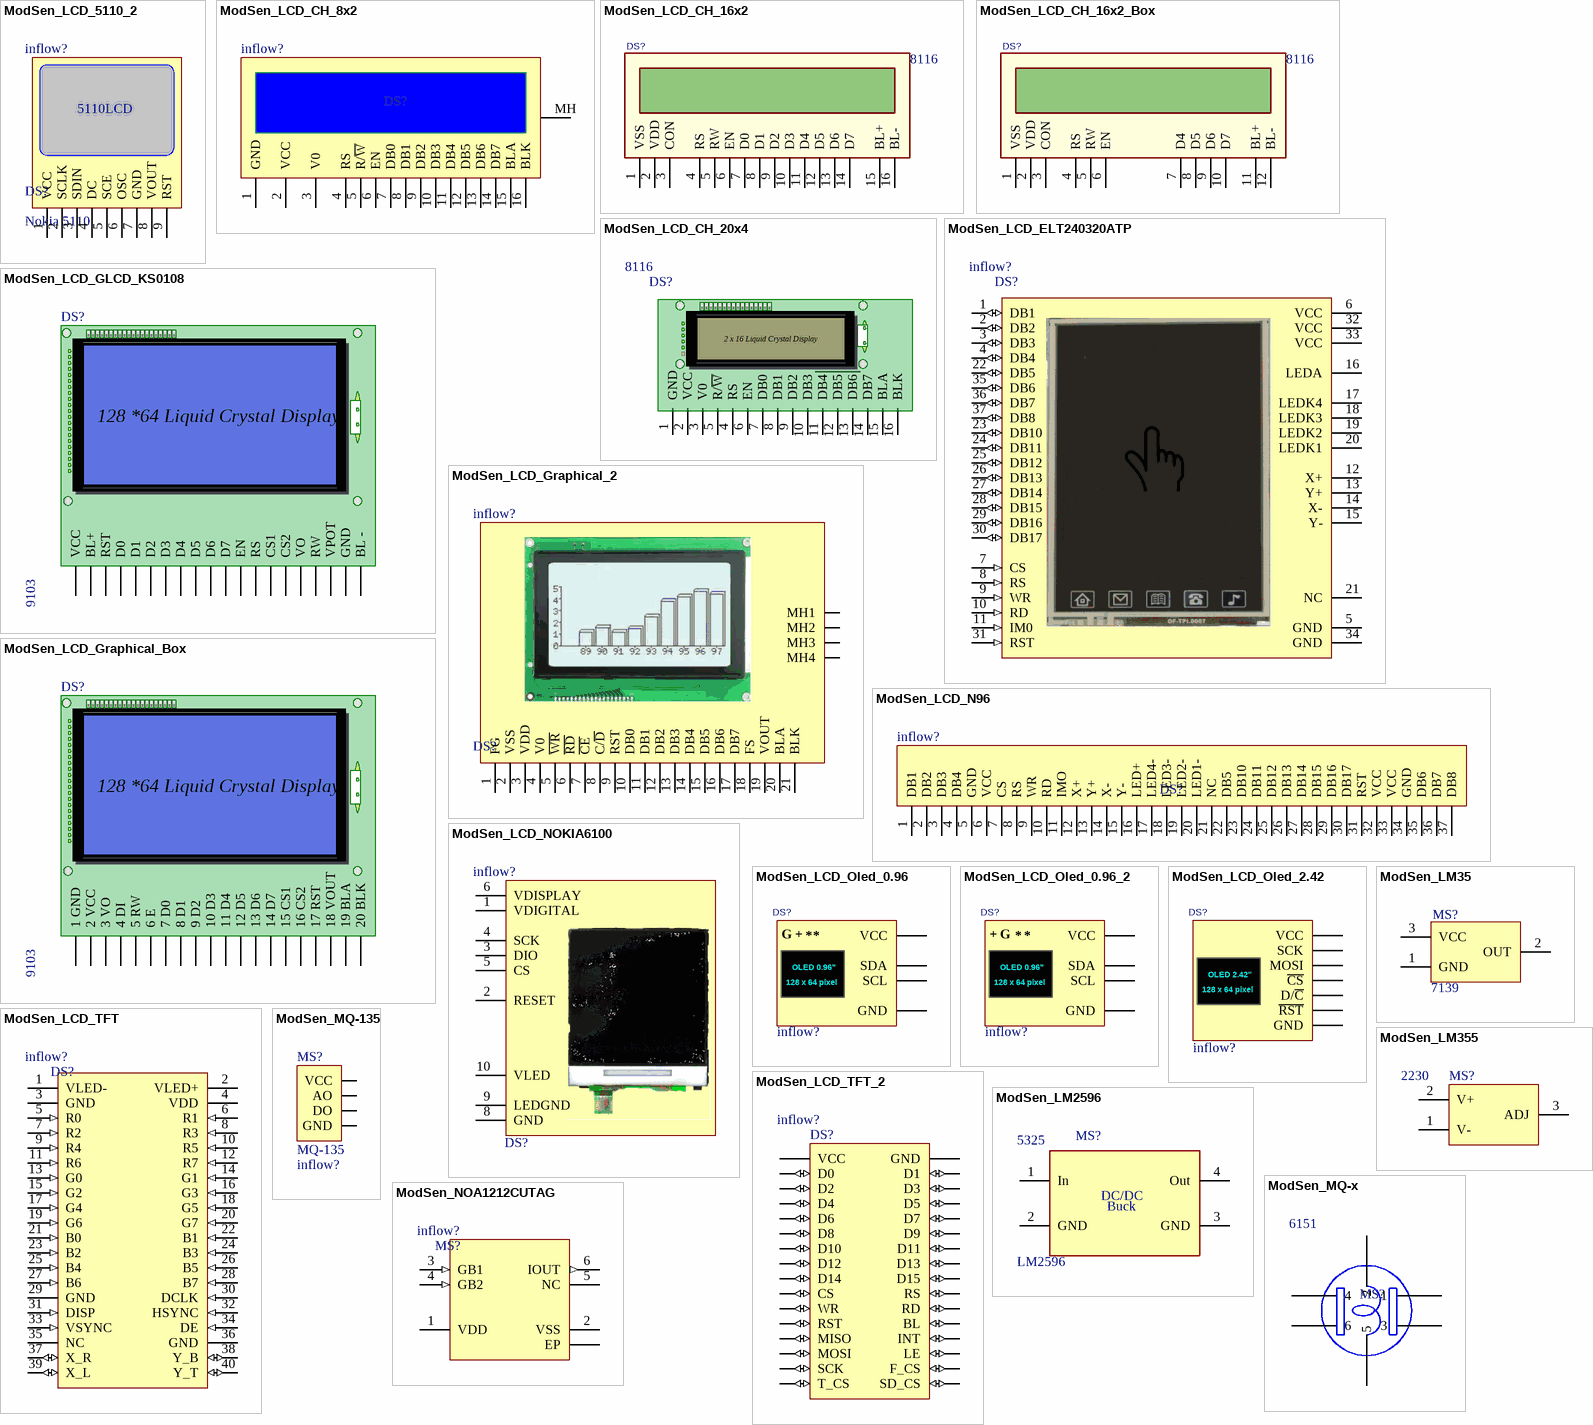
[diagram p3: symbols ModSen_LCD_5110_2 to ModSen_NOA1212CUTAG]

## ModSen_LCD_5110_2
designator DS?, comment Nokia 5110  Inflow: inflow?
5110LCD; Rating: Rating?; Type: Type?; Validation: NT; Value: Nokia 5110; Package: Package?
footprint 5110LCD
footprint 5110LCD_FIXED
pins: 1 VCC, 2 SCLK, 3 SDIN, 4 DC, 5 SCE, 6 OSC, 7 GND, 8 VOUT, 9 RST

## ModSen_LCD_CH_8x2
designator DS?, comment Inflow: inflow?  (hidden comment: 8x2)
Character LCD; Rating: Rating?; Type: Type?; Validation: NT; Value: 8x2; Package: Package?
footprint Char LCD 8X2 (LCD 8x2 , 16-Leads, Pitch 2.54mm)
pins: 1 GND, 2 VCC, 3 V0, 4 RS, 5 R/~{W}, 6 EN, 7 DB0, 8 DB1, 9 DB2, 10 DB3, 11 DB4, 12 DB5, 13 DB6, 14 DB7, 15 BLA, 16 BLK, MH

## ModSen_LCD_CH_16x2
designator DS?, comment Inflow: 8116  (hidden comment: 16x2)
Alphanumeric LCD character; Rating: Rating?; Validation: Valid; Value: 16x2; Package: Dip; Type: Alphanumeric
footprint LCD_2X16 (LCD 2x16 Alphanumberic-Designer Abbas Basereh)
footprint LCD_2X16 BLUE10mm (LCD 2x16 Alphanumberic-Designer Abbas Basereh)
footprint LCD_2X16 BLUE - 2.5mm (LCD 2x16 Alphanumberic-Designer Abbas Basereh)
footprint LCD_2X16 GREEN10mm (LCD 2x16 Alphanumberic-Designer Abbas Basereh)
footprint LCD_2X16 GREEN - 2.5mm (LCD 2x16 Alphanumberic-Designer Abbas Basereh)
pins: 1 VSS, 2 VDD, 3 CON "Contrast", 4 RS, 5 RW, 6 EN, 7 D0, 8 D1, 9 D2, 10 D3, 11 D4, 12 D5, 13 D6, 14 D7, 15 BL+, 16 BL-

## ModSen_LCD_CH_16x2_Box
designator DS?, comment Inflow: 8116  (hidden comment: 16x2)
Alphanumeric LCD character; Rating: Rating?; Validation: Valid; Value: 16x2; Package: Dip; Type: Alphanumeric
footprint BOX-HDR-2x6-2.54mm-S (Male Box Header Connector 2X6 Pitch 2.54mm)
footprint BOX-HDR-2x6-2.54mm-RA (Male Box Header Connector 2X6 Pitch 2.54mm)
pins: 1 VSS, 2 VDD, 3 CON "Contrast", 4 RS, 5 RW, 6 EN, 7 D4, 8 D5, 9 D6, 10 D7, 11 BL+, 12 BL-

## ModSen_LCD_CH_20x4
designator DS?, comment Inflow: 8116  (hidden comment: 20x4)
Alphanumeric LCD character; Rating: Rating?; Type: Type?; Validation: NT; Value: 20x4; Package: Package?
footprint LCD 20x4
footprint LCD 16x2 (Character LCD, 2 Row, 16 Colunm)
pins: 1 GND, 2 VCC, 3 V0, 4 RS, 5 R/~{W}, 6 EN, 7 DB0, 8 DB1, 9 DB2, 10 DB3, 11 DB4, 12 DB5, 13 DB6, 14 DB7, 15 BLA, 16 BLK, MH
text: 2 x 16 Liquid Crystal Display

## ModSen_LCD_ELT240320ATP
designator DS?, comment Inflow: inflow?  (hidden comment: ELT240320ATP)
2.8 Inch ELT240320ATP TFT LCD Display With Touch Screen; Rating: Rating?; Type: Type?; Validation: NT; Value: ELT240320ATP; Package: Package?
footprint ELT240320ADP (ELT240320ADP , 2.8 Inch TFT LED with Touch Screen , 37 Leads with 1mm Pitch)
pins: 1 DB1 (io) "Data Bus", 2 DB2 (io) "Data Bus", 3 DB3 (io) "Data Bus", 4 DB4 (io) "Data Bus", 5 GND (power) "Ground", 6 VCC (power) "Power", 7 CS (in) "Chip Select Pin for Serial Interface", 8 RS (in) "Data or command", 9 WR (in) "Write Signal", 10 RD (in) "read Signal", 11 IM0 (in) "Interface Mode select", 12 X+ (hiz) "Touch Panel X+", 13 Y+ (hiz) "Touch Panel Y+", 14 X- (hiz) "Touch Panel X-", 15 Y- (hiz) "Touch Panel Y-", 16 LEDA "Back Light LED Anode", 17 LEDK4 "Back Light LED Cathode4", 18 LEDK3 "Back Light LED Cathode3", 19 LEDK2 "Back Light LED Cathode2", 20 LEDK1 "Back Light LED Cathode1", 21 NC "No Connection", 22 DB5 (io) "Data Bus", 23 DB10 (io) "Data Bus", 24 DB11 (io) "Data Bus", 25 DB12 (io) "Data Bus", 26 DB13 (io) "Data Bus", 27 DB14 (io) "Data Bus", 28 DB15 (io) "Data Bus", 29 DB16 (io) "Data Bus", 30 DB17 (io) "Data Bus", 31 RST (in) "Reset", 32 VCC (power) "Power", 33 VCC (power) "Power", 34 GND (power) "Ground", 35 DB6 (io) "Data Bus", 36 DB7 (io) "Data Bus", 37 DB8 (io) "Data Bus"

## ModSen_LCD_GLCD_KS0108
designator DS?, comment Inflow: 9103  (hidden comment: KS0108)
Graphic LCD 128*64px; Rating: Rating?; Type: Graphical; Validation: Valid; Value: KS0108; Package: 128x64
footprint LCDG_128X64_BLU (LCD Graphic Disp, 128X64, TS12864A-2)
pins: 1 GND, 2 VCC, 3 VO, 4 RS, 5 RW, 6 EN, 7 D0, 8 D1, 9 D2, 10 D3, 11 D4, 12 D5, 13 D6, 14 D7, 15 CS1, 16 CS2, 17 RST, 18 VPOT, 19 BL+, 20 BL -
text: 128 *64 Liquid Crystal Display

## ModSen_LCD_Graphical_2
designator DS?, comment Inflow: inflow?  (hidden comment: T6963)
LCD Module 240x128 Dot With T6963 Controller; Rating: Rating?; Type: Type?; Validation: NT; Value: T6963; Package: Package?
footprint TS240128
pins: 1 FG, 2 VSS, 3 VDD, 4 V0, 5 ~{WR}, 6 ~{RD}, 7 ~{CE}, 8 C/~{D}, 9 RST, 10 DB0, 11 DB1, 12 DB2, 13 DB3, 14 DB4, 15 DB5, 16 DB6, 17 DB7, 18 FS, 19 VOUT, 20 BLA, 21 BLK, MH1, MH2, MH3, MH4

## ModSen_LCD_Graphical_Box
designator DS?, comment Inflow: 9103  (hidden comment: 128x64)
Graphic LCD 128*64px; Rating: Rating?; Type: Type?; Validation: NT; Value: 128x64; Package: Package?
footprint BOX-HDR-10X2-2.54mm-S (20 pins, straight, gold plating)
pins: 1 1 GND, 2 2 VCC, 3 3 VO, 4 4 DI, 5 5 RW, 6 6 E, 7 7 D0, 8 8 D1, 9 9 D2, 10 10 D3, 11 11 D4, 12 12 D5, 13 13 D6, 14 14 D7, 15 15 CS1, 16 16 CS2, 17 17 RST, 18 18 VOUT, 19 19 BLA, 20 20 BLK
text: 128 *64 Liquid Crystal Display

## ModSen_LCD_N96
designator DS?, comment Inflow: inflow?  (hidden comment: N96)
N96 LCD; Rating: Rating?; Type: Type?; Validation: NT; Value: N96; Package: Package?
footprint LCD N96
pins: 1 DB1, 2 DB2, 3 DB3, 4 DB4, 5 GND, 6 VCC, 7 CS, 8 RS, 9 WR, 10 RD, 11 IMO, 12 X+, 13 Y+, 14 X-, 15 Y-, 16 LED+, 17 LED4-, 18 LED3-, 19 LED2-, 20 LED1-, 21 NC, 22 DB5, 23 DB10, 24 DB11, 25 DB12, 26 DB13, 27 DB14, 28 DB15, 29 DB16, 30 DB17, 31 RST, 32 VCC, 33 VCC, 34 GND, 35 DB6, 36 DB7, 37 DB8

## ModSen_LCD_NOKIA6100
designator DS?, comment Inflow: inflow?  (hidden comment: NOKIA6100)
Nokia6100 LCD; Rating: Rating?; Type: Type?; Validation: NT; Value: NOKIA6100; Package: Package?
footprint Nokia_6610_LCD
pins: 1 VDIGITAL, 2 RESET, 3 DIO, 4 SCK, 5 CS, 6 VDISPLAY, 8 GND, 9 LEDGND, 10 VLED

## ModSen_LCD_Oled_0.96
designator DS?, comment Inflow: inflow?  (hidden comment: SSD1306)
Oled Display; Rating: 128x64; Validation: Valid; Value: SSD1306; Type: OLED; Package: 0.96
footprint OLED_SSD1306_64_I2C (OLED SS1306 Breakout, 128X64, I2C)
pins: 1 GND, 2 VCC, 3 SCL, 4 SDA
text: G; +; OLED 0.96"; 128 x 64 pixel

## ModSen_LCD_Oled_0.96_2
designator DS?, comment Inflow: inflow?  (hidden comment: SSD1306)
Oled Display; Rating: 128x64; Validation: Valid; Value: SSD1306; Type: OLED; Package: 0.96
footprint OLED_SSD1306_64_I2C (OLED SS1306 Breakout, 128X64, I2C)
pins: 1 VCC, 2 GND, 3 SCL, 4 SDA
text: +; G; OLED 0.96"; 128 x 64 pixel

## ModSen_LCD_Oled_2.42
designator DS?, comment Inflow: inflow?  (hidden comment: SSD1309)
Oled Display; Rating: 128x64; Validation: Valid; Value: SSD1309; Type: OLED; Package: 2.42
footprint JST XH B7B-XH-A
pins: 1 GND, 2 VCC, 3 SCK, 4 MOSI, 5 ~{RST}, 6 D/~{C}, 7 ~{CS}
text: OLED 2.42"; 128 x 64 pixel

## ModSen_LCD_TFT
designator DS?, comment Inflow: inflow?  (hidden comment: TFT)
TFT Graphical LCD; Rating: Rating?; Type: Type?; Validation: NT; Value: TFT; Package: Package?
footprint FFC/SM0.5-2H40A (Connector; FH12 Series; 40 Position; 0.5mm Spaced Top Contact)
footprint SMD_CON_FPC_2x20 (FPC-XXS1VN3R)
pins: 1 VLED- (power), 2 VLED+ (power), 3 GND (power), 4 VDD (power), 5 R0 (in), 6 R1 (in), 7 R2 (in), 8 R3 (in), 9 R4 (in), 10 R5 (in), 11 R6 (in), 12 R7 (in), 13 G0 (in), 14 G1 (in), 15 G2 (in), 16 G3 (in), 17 G4 (in), 18 G5 (in), 19 G6 (in), 20 G7 (in), 21 B0 (in), 22 B1 (in), 23 B2 (in), 24 B3 (in), 25 B4 (in), 26 B5 (in), 27 B6 (in), 28 B7 (in), 29 GND (power), 30 DCLK (in), 31 DISP (in), 32 HSYNC (in), 33 VSYNC (in), 34 DE (in), 35 NC, 36 GND (power), 37 X_R (io), 38 Y_B (io), 39 X_L (io), 40 Y_T (io)
1 alternate drawing of the same symbol

## ModSen_LCD_TFT_2
designator DS?, comment Inflow: inflow?  (hidden comment: TFT)
Header Port For TFT LCD; Rating: Rating?; Type: Type?; Validation: NT; Value: TFT; Package: Package?
footprint HDR2X16-2.54mm (Connector; Header; 16x2 Position; 2.54mm Pitch)
footprint HDR2X16h-2.54mm (Connector; Header; 16x2 Position; Right Angle; 2.54mm Pitch)
footprint HDR2X16-2mm (Connector; Header; 16x2 Position; 2mm Pitch)
footprint HDR2X16h-2mm (Connector; Header; 16x2 Position; Right Angle; 2mm Pitch)
pins: 1 VCC (power), 2 GND (power), 3 D0 (io) "Data Bus", 4 D1 (io) "Data Bus", 5 D2 (io) "Data Bus", 6 D3 (io) "Data Bus", 7 D4 (io) "Data Bus", 8 D5 (io) "Data Bus", 9 D6 (io) "Data Bus", 10 D7 (io) "Data Bus", 11 D8 (io) "Data Bus", 12 D9 (io) "Data Bus", 13 D10 (io) "Data Bus", 14 D11 (io) "Data Bus", 15 D12 (io) "Data Bus", 16 D13 (io) "Data Bus", 17 D14 (io) "Data Bus", 18 D15 (io) "Data Bus", 19 CS (io), 20 RS (io), 21 WR (io), 22 RD (io), 23 RST (io), 24 BL (io), 25 MISO (io), 26 INT (io), 27 MOSI (io), 28 LE (io), 29 SCK (io), 30 F_CS (io), 31 T_CS (io), 32 SD_CS (io)

## ModSen_LM35
designator MS?, comment Inflow: 7139  (hidden comment: LM35)
LM35 Temperature Sensor; Rating: -55~+150; Validation: NT; Value: LM35; Package: Dip; Type: Temperature
footprint TO-92 Bent (DESIGNER :ABBAS BASEREH)
footprint TO-92 CF (DESIGNER :ABBAS BASEREH)
footprint TO-92 STR (DESIGNER :ABBAS BASEREH)
pins: 1 GND, 2 OUT, 3 VCC

## ModSen_LM355
designator MS?, comment Inflow: 2230  (hidden comment: LM355)
LM355 Temperature Sensor; Rating: Rating?; Validation: NT; Value: LM355; Package: Package?; Type: Type?
footprint TO-92 Bent (DESIGNER :ABBAS BASEREH)
footprint TO-92 CF (DESIGNER :ABBAS BASEREH)
footprint TO-92 STR (DESIGNER :ABBAS BASEREH)
pins: 1 V-, 2 V+, 3 ADJ

## ModSen_LM2596
designator MS?, comment Inflow: 5325  (hidden comment: LM2596)
DC to DC Buck converter 1.23V-30V 3A; Rating: Rating?; Validation: Valid; Package: Package?; Type: Type?; Value: LM2596
footprint LM2596_modsen
footprint LM2596_modsen _SMD
pins: 1 In (power), 2 GND (power), 3 GND (power), 4 Out (power)
text: DC/DC; Buck

## ModSen_MQ-135
designator MS?, comment Inflow: inflow?  (hidden comment: MQ-135)
Air Quality Sensor; Rating: Rating?; Validation: Valid; Package: Dip; Type: Air Quality; Value: MQ-135
footprint MQ-Module
footprint MQ-Module_2
pins: 1 AO, 2 DO, 3 GND, 4 VCC

## ModSen_MQ-x
designator MS?, comment Inflow: 6151  (hidden comment: MQ Socket)
Gas Sensor; Rating: Rating?; Validation: NT; Value: MQ Socket; Package: Package?; Type: Type?
footprint MQ-x (Gas sensor)
pins: 1, 2, 3, 4, 5, 6

## ModSen_NOA1212CUTAG
designator MS?, comment Inflow: inflow?  (hidden comment: NOA1212CUTAG)
Ambient Light Sensor with  Dark Current Compensation; Rating: Rating?; Validation: NT; Value: NOA1212CUTAG; Package: Package?; Type: Type?
footprint CUDFN6 (CUDFN6, 1.6x1.6mm, 0.5P)
pins: 1 VDD (power), 2 VSS (power), 3 GB1 (in), 4 GB2 (in), 5 NC, 6 IOUT (out), EP (power)

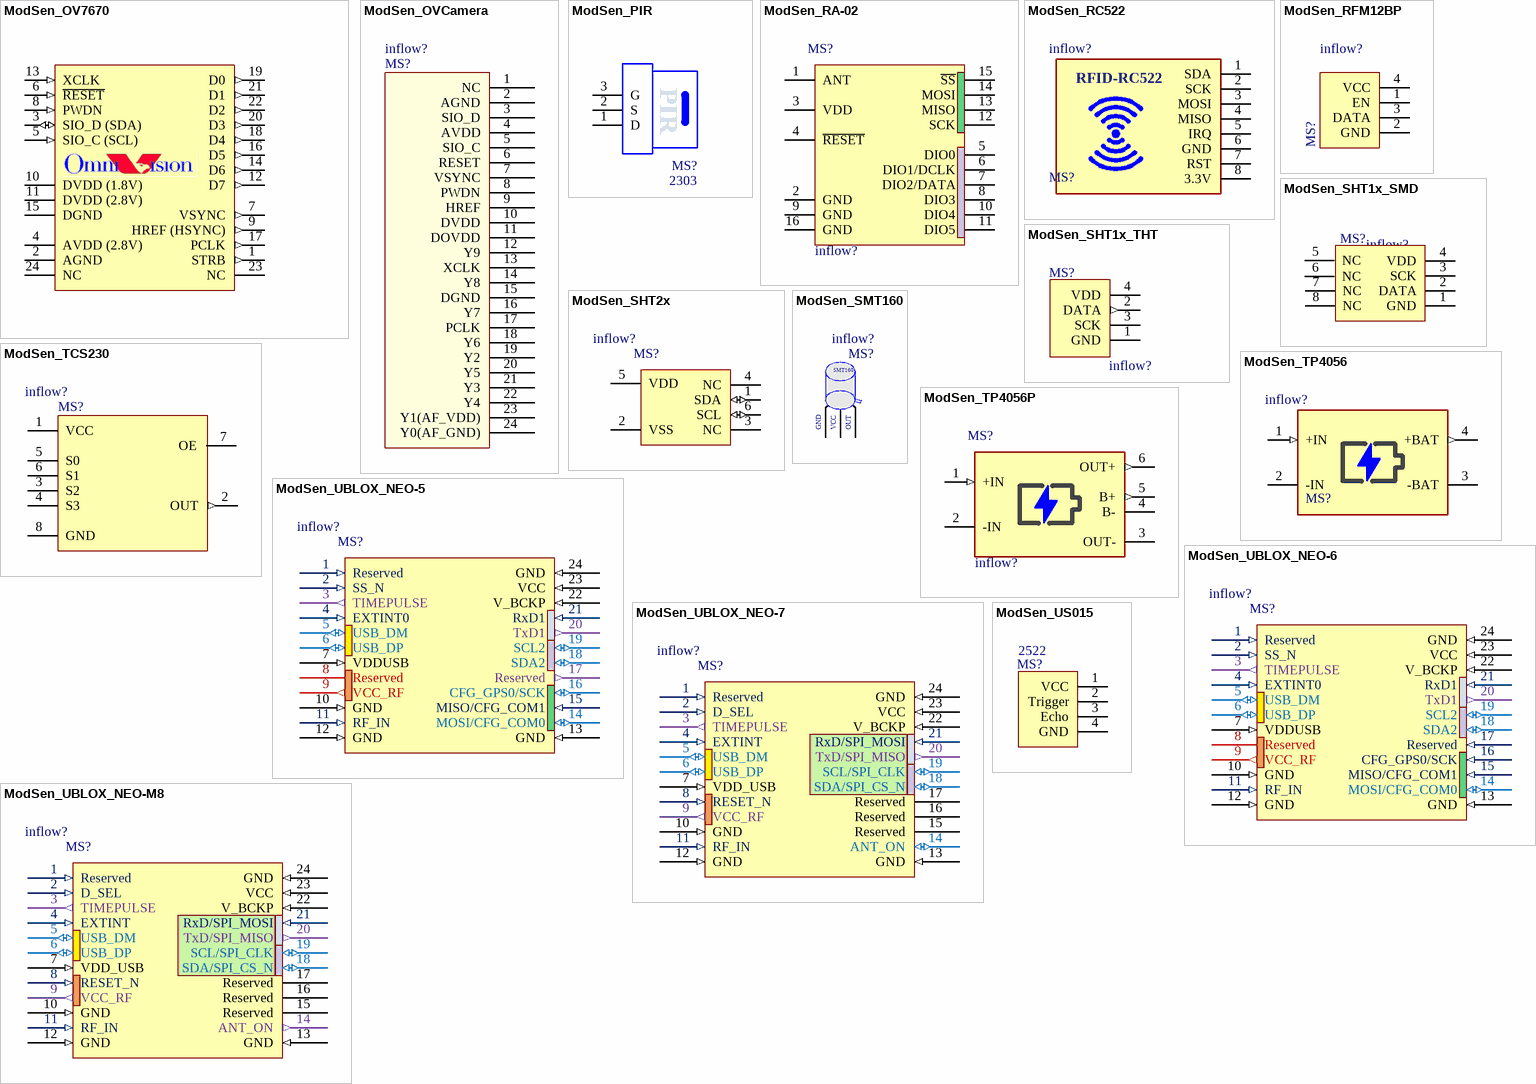
[diagram p4: symbols ModSen_OV7670 to ModSen_US015]

## ModSen_OV7670
designator MS?, comment Inflow: inflow?  (hidden comment: OV7670)
OV7670 Color CMOS VGA (640 x 480)  Concept Camera Module; Rating: Rating?; Validation: NT; Value: OV7670; Package: Package?; Type: Type?
footprint FFC/SM0.5-2H24 (Connector; FH12 Series; 24 Position; 0.5mm Spaced Bottom Contact)
footprint FFC/SM0.5-2H24A (Connector; FH12 Series; 24 Position; 0.5mm Spaced Top Contact)
footprint FFC/SM0.5-4V24 (Connector; FH12 Series; 24 Position; 0.5mm Spaced Vertical Mounting)
pins: 1 STRB (out), 2 AGND (power), 3 SIO_D (SDA) (io), 4 AVDD (2.8V) (power), 5 SIO_C (SCL) (in), 6 ~{RESET} (in), 7 VSYNC (out), 8 PWDN (in), 9 HREF (HSYNC) (out), 10 DVDD (1.8V) (power), 11 DVDD (2.8V) (power), 12 D7 (out), 13 XCLK (in), 14 D6 (out), 15 DGND (power), 16 D5 (out), 17 PCLK (out), 18 D4 (out), 19 D0 (out), 20 D3 (out), 21 D1 (out), 22 D2 (out), 23 NC, 24 NC
1 alternate drawing of the same symbol

## ModSen_OVCamera
designator MS?, comment Inflow: inflow?  (hidden comment: OVxxxx)
OV9650/OV2460/OV3640/OV5640; Rating: Rating?; Validation: NT; Value: OVxxxx; Package: Package?; Type: Type?
footprint OV-Camera (OV9650/OV2460/OV3640/OV5640)
pins: 1 NC, 2 AGND, 3 SIO_D, 4 AVDD, 5 SIO_C, 6 RESET, 7 VSYNC, 8 PWDN, 9 HREF, 10 DVDD, 11 DOVDD, 12 Y9, 13 XCLK, 14 Y8, 15 DGND, 16 Y7, 17 PCLK, 18 Y6, 19 Y2, 20 Y5, 21 Y3, 22 Y4, 23 Y1(AF_VDD), 24 Y0(AF_GND)

## ModSen_PIR
designator MS?, comment Inflow: 2303  (hidden comment: PIR)
Pyroelectric Infrared Radial Sensor; Rating: Rating?; Validation: NT; Value: PIR; Package: Package?; Type: Type?
footprint PIR-S TYPE (For D203S and D204S PIR Sensors)
footprint PIR-B Type (For D203B and D204B PIR Sensors)
pins: 1 D "Drain", 2 S "Source", 3 G "Ground"

## ModSen_RA-02
designator MS?, comment Inflow: inflow?  (hidden comment: SX1276)
RA_02 LoRa Module by AI-Thinker; Rating: 433M; Validation: Valid; Type: LoRa; Package: SMD; Value: SX1276
footprint RA_01 (RA_01 LoRa Module by AI-Thinker)
pins: 1 ANT "RF Input and RF output for bands 2&3", 2 GND "Exposed ground pad", 3 VDD "Power Supply voltage", 4 ~{RESET} "Reset trigger input", 5 DIO0 "Digital I/O, software configured", 6 DIO1/DCLK "Digital I/O, software configured", 7 DIO2/DATA "Digital I/O, software configured", 8 DIO3 "Digital I/O, software configured", 9 GND "Exposed ground pad", 10 DIO4 "Digital I/O, software configured", 11 DIO5 "Digital I/O, software configured", 12 SCK "SPI Clock input", 13 MISO "SPI Data output", 14 MOSI "SPI Data input", 15 ~{SS} "SPI Chip select input", 16 GND "Exposed ground pad"

## ModSen_RC522
designator MS?, comment Inflow: inflow?  (hidden comment: RC522)
RFID Reader Module 13.56MHz; Rating: Rating?; Validation: NT; Value: RC522; Package: Package?; Type: Type?
footprint RC522 (RC522, 8-Leads, Pitch 2.54mm)
pins: 1 SDA, 2 SCK, 3 MOSI, 4 MISO, 5 IRQ, 6 GND (power), 7 RST, 8 3.3V (power)
text: RFID-RC522

## ModSen_RFM12BP
designator MS?, comment Inflow: inflow?  (hidden comment: RFM12BP)
ISM band transceiver module; Rating: Rating?; Validation: NT; Value: RFM12BP; Package: Package?; Type: Type?
footprint RFM12BP
pins: 1 EN, 2 GND, 3 DATA, 4 VCC

## ModSen_SHT1x_SMD
designator MS?, comment Inflow: inflow?  (hidden comment: SHT1x)
Digital Humidity And Temperature Sensor; Rating: Rating?; Validation: NT; Value: SHT1x; Package: Package?; Type: Type?
footprint SHT1X_SMD
pins: 1 GND (power), 2 DATA, 3 SCK, 4 VDD, 5 NC, 6 NC, 7 NC, 8 NC

## ModSen_SHT1x_THT
designator MS?, comment Inflow: inflow?  (hidden comment: SHT1x)
Digital Humidity And Temperature Sensor; Rating: Rating?; Validation: NT; Value: SHT1x; Package: Package?; Type: Type?
footprint SHT1X_DIP
pins: 1 GND (power), 2 DATA (out), 3 SCK, 4 VDD

## ModSen_SHT2x
designator MS?, comment Inflow: inflow?  (hidden comment: SHT2x)
Humidity and Temperature Sensor; Rating: Rating?; Validation: NT; Value: SHT2x; Package: Package?; Type: Type?
footprint SHT2x (SHT2x, The outer dotted line represents the  outer dime  nsion of the DFN package)
pins: 1 SDA (io) "Serial  Data  , bidirectional", 2 VSS (power) "Ground", 3 NC "Not Connected, floating", 4 NC "Not Connected, floating", 5 VDD (power) "Supply Voltage", 6 SCL (io) "Serial Clock, bidirectional"

## ModSen_SMT160
designator MS?, comment Inflow: inflow?  (hidden comment: SMT160)
Three terminal integrated temperature sensor; Rating: Rating?; Validation: NT; Value: SMT160; Package: Package?; Type: Type?
footprint SMT160
pins: 0, 1, 2
text: GND; VCC; OUT

## ModSen_TCS230
designator MS?, comment Inflow: inflow?  (hidden comment: TCS230)
COLOR LIGHT-TO-FREQUENCY CONVERTER Module; Rating: Rating?; Validation: NT; Value: TCS230; Package: Package?; Type: Type?
footprint TCS230 MODULE (DESIGNER ABBAS BASEREH)
pins: 1 VCC (power), 2 OUT (out), 3 S2, 4 S3, 5 S0, 6 S1, 7 OE, 8 GND (power)

## ModSen_TP4056
designator MS?, comment Inflow: inflow?  (hidden comment: TP4056)
1A Standalone Linear Li-lon Battery Charger; Rating: Rating?; Validation: NT; Value: TP4056; Package: Package?; Type: Type?
footprint TP4056 (Module TP4056 23/6x17/4mm)
pins: 1 +IN (in), 2 -IN (power), 3 -BAT (power), 4 +BAT (out)

## ModSen_TP4056P
designator MS?, comment Inflow: inflow?  (hidden comment: TP4056P)
1A Standalone Linear Li-lon Battery Charger; Rating: 1Cell; Validation: NT; Value: TP4056P; Package: Dip; Type: Charger
footprint TP4056P (Module TP4056P 28/8x17/4mm)
pins: 1 +IN (in), 2 -IN (power), 3 OUT- (power), 4 B- (power), 5 B+ (out), 6 OUT+ (out)